# Altium integrated library Altera APEX 20KE.IntLib: 235 symbols (part 13 of 49)
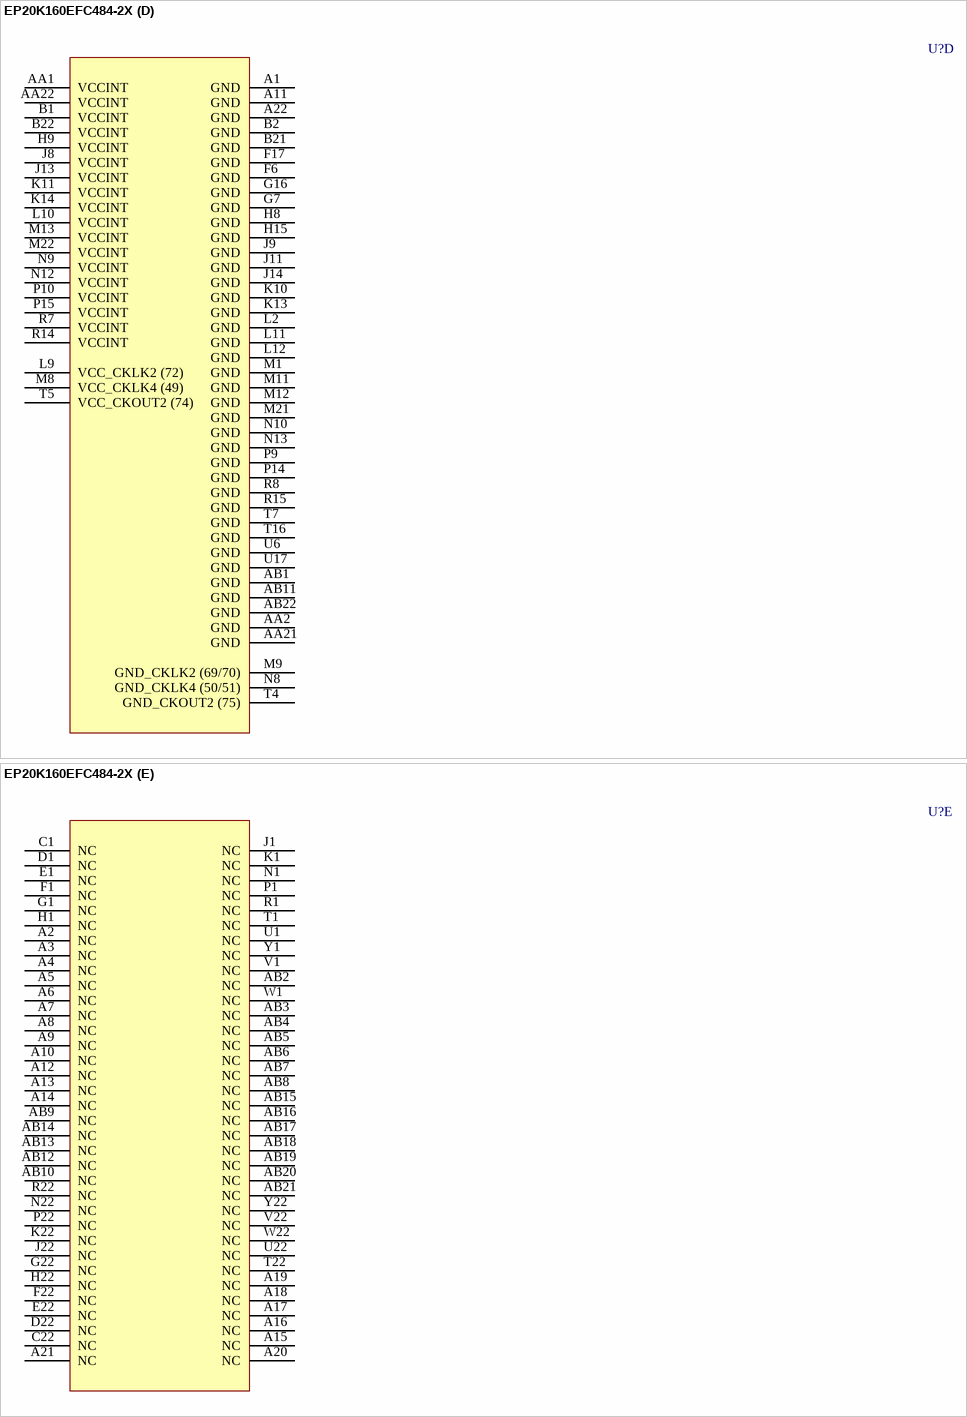
[diagram p411: symbol EP20K160EFC484-2X]

## EP20K160EFC484-2X
designator U?
APEX 20K160E PLD with PLLs and LVDS, 484-Pin FBGA, Commercial Grade, Speed Grade 2; Published: 17-Jul-2002; LatestRevisionDate: 13-Apr-2006; LatestRevisionNote: IPC-7351 Footprint Added.; DatasheetVersion: Mar-2004; PackageVersion: ver16.0, Dec-2009; PackageReference: FBGA484; Publisher: Altium Limited; PackageDescription: 484-Ball FineLine Ball Grid Array (FBGA484) - Flip Chip; Code_JEDEC: MS-034-AAJ-1; Code_IPC: BGA100P22X22-484; ComponentLink1Description: Manufacturer Link; ComponentLink1URL: http://www.altera.com/products/devices/apex/apx-index.html; ComponentLink2Description: Datasheet; ComponentLink2URL: http://www.altera.com/literature/ds/apex.pdf
footprint FBGA484 (BGA, 484-Leads, Body 23x23mm, Pitch 1mm)
3D model EP20K160E-FBGA484 (484-Ball FineLine Ball Grid Array (FBGA484) - Flip Chip)
part A pins: AA3 IO (121) (io), AA4 IO (122) (io), AA5 IO (123) (io), AA6 IO (124) (io), AA7 IO (125) (io), AA8 IO (127) (io), AA9 IO (128) (io), AA10 IO (129) (io), AA11 IO (130) (io), B12 IO (339) (io), B13 IO (338) (io), B14 IO (337) (io), B15 IO (336) (io), B16 IO (334) (io), B17 IO (333) (io), B18 IO (332) (io), B19 IO (331) (io), B20 IO (330) (io), C4 IO (419) (io), C5 IO (413) (io), C6 IO (409) (io), C7 IO (405) (io), C8 IO (400) (io), C9 IO (394) (io), C10 IO (393) (io), C20 IO (328) (io), C21 IO (326) (io), D4 IO/DATA5 (420) (io), D5 IO (418) (io), D6 IO (411) (io), D7 IO (406) (io), D8 IO/DATA3 (412) (io), D9 IO (401) (io), D10 IO (391) (io), D11 FAST2 (385) (io), D19 IO (327) (io), D20 IO (324) (io), D21 IO (321) (io), E7 IO/DATA4 (416) (io), E8 IO (414) (io), E9 IO (404) (io), E10 IO (402) (io), E18 IO (325) (io), E19 IO (322) (io), E20 IO (319) (io), E21 IO (315) (io), F8 IO (415) (io), F9 IO (408) (io), F10 IO (397) (io), F11 IO (388) (io), F12 FAST1 (378) (io), F18 IO (320) (io), F19 IO (318) (io), F20 IO (313) (io), F21 IO (311) (io), G8 VCCIO1 (power), G9 IO (417) (io), G10 IO/DATA2 (403) (io), G11 IO (395) (io), G12 IO/RDYnBSY (390) (io), G13 IO/INIT_DONE (389) (io), G18 IO (314) (io), G19 IO (312) (io), G20 IO (308) (io), G21 IO (306) (io), H10 IO (407) (io), H11 IO/DATA1 (396) (io), H12 IO/CLKUSR (392) (io), H17 IO (309) (io), H18 IO (307) (io), H19 IO (303) (io), H20 IO (301) (io), H21 IO (299) (io), J2 IO (83) (io), J3 IO (82) (io), J5 IO (45) (io), J7 IO (40) (io), J10 VCCIO1 (power), J15 VCCIO3 (power), J16 IO (305) (io), J17 IO (302) (io), J19 IO (296) (io), J20 IO (294) (io), J21 IO (289) (io), K2 IO (88) (io), K3 IO (86) (io), K5 IO (81) (io), K15 IO (297) (io), K16 IO (295) (io), K19 IO (291) (io), K20 IO (287) (io), K21 IO (284) (io), L13 VCCIO3 (power), L21 IO (282) (io), L22 VCCIO5 (power), M2 IO (92) (io), M3 IO (91) (io), M6 IO (97) (io), N2 IO (95) (io), N3 IO (94) (io), N6 IO/DEV_OE (73) (io), N11 VCCIO7 (power), N14 VCCIO5 (power), N20 IO (269) (io), N21 IO (270) (io), P2 IO (98) (io), P3 IO (99) (io), P12 IO (189) (io), P20 IO (260) (io), P21 IO (263) (io), R2 IO (100) (io), R3 IO (101) (io), R4 IO/LOCK2 (87) (io), R5 IO/CLKLK_OUT2n (80) (io), R9 VCCIO7 (power), R12 IO (184) (io), R13 IO (194) (io), R16 VCCIO5 (power), T2 IO (105) (io), T3 IO (104) (io), T8 VCCIO7 (power), T12 IO (181) (io), T13 IO (185) (io), T14 IO (196) (io), U2 IO (103) (io), U3 IO (107) (io), U4 IO (111) (io), U5 IO/LOCK4 (93) (io), U13 IO (187) (io), U14 IO (193) (io), U15 IO (203) (io), U16 IO (205) (io), U18 IO (208) (io), V2 IO (106) (io), V3 IO (110) (io), V4 IO (113) (io), V11 FAST4 (168) (io), V12 FAST3 (177) (io), V13 IO (183) (io), V14 IO (192) (io), V15 IO (199) (io), V16 IO (204) (io), V17 IO (207) (io), V18 IO (209) (io), W2 IO (109) (io), W3 IO (112) (io), W4 IO (116) (io), W5 IO (118) (io), W14 IO (191) (io), W15 IO (197) (io), W16 IO (200) (io), W17 IO (206) (io), W18 IO (212) (io), Y2 IO (115) (io), Y3 IO (117) (io), Y4 IO (119) (io), Y11 IO (180) (io), Y12 IO (182) (io), Y13 IO (186) (io), Y14 IO (188) (io), Y15 IO (195) (io), Y16 IO (198) (io), Y17 IO (211) (io), Y18 IO (210) (io)
part B pins: AA12 IO (215) (io), AA13 IO (216) (io), AA14 IO (217) (io), AA15 IO (218) (io), AA16 IO (220) (io), AA17 IO (221) (io), AA18 IO (222) (io), AA19 IO (223) (io), AA20 IO (224) (io), B3 IO (11) (io), B4 IO (10) (io), B5 IO (9) (io), B6 IO (8) (io), B7 IO (7) (io), B8 IO (4) (io), B9 IO (3) (io), B10 IO (2) (io), B11 IO (1) (io), C2 IO (13) (io), C3 IO (14) (io), C11 IO (370) (io), C12 IO (368) (io), C13 IO (366) (io), C14 IO (362) (io), C15 IO (355) (io), C16 IO (353) (io), C17 IO (348) (io), C18 IO (344) (io), C19 IO (342) (io), D2 IO (16) (io), D3 IO (15) (io), D13 IO (367) (io), D14 IO (360) (io), D15 IO (356) (io), D16 IO (354) (io), D17 IO (347) (io), D18 IO (343) (io), E2 IO (26) (io), E3 IO (23) (io), E4 IO (19) (io), E5 IO (17) (io), E6 IO (20) (io), E13 IO (373) (io), E14 IO (363) (io), E15 IO (358) (io), E16 IO (351) (io), E17 IO (346) (io), F2 IO (31) (io), F3 IO (27) (io), F4 IO (25) (io), F5 IO (21) (io), F7 IO (22) (io), F13 IO (369) (io), F14 IO (365) (io), F15 IO (359) (io), F16 IO (350) (io), G2 IO (46) (io), G3 IO (44) (io), G4 IO (37) (io), G5 IO (29) (io), G6 IO (34) (io), G14 IO (375) (io), G15 IO (361) (io), G17 IO (345) (io), H2 IO (77) (io), H3 IO (53) (io), H4 IO (43) (io), H5 IO (38) (io), H6 IO (32) (io), H7 VCCIO8 (power), H13 IO (374) (io), H14 VCCIO2 (power), H16 IO (349) (io), J4 IO (47) (io), J6 IO/DATA6 (28) (io), J12 IO (372) (io), J18 IO (300) (io), K4 IO (85) (io), K6 IO (76) (io), K7 IO/nCS (41) (io), K8 IO/DATA7 (33) (io), K9 VCCIO8 (power), K12 VCCIO2 (power), K17 CLK3p (272) (in), K18 IO/CLK3n (271) (io), L1 VCCIO8 (power), L3 IO (89) (io), L6 CLK2p (65) (in), L7 IO/CLK2n (61) (io), L8 IO/nRS (39) (io), L14 IO (293) (io), L15 IO (290) (io), L16 IO (288) (io), L17 IO (285) (io), L20 IO (283) (io), M7 IO/nWS (35) (io), M10 VCCIO6 (power), M15 IO (265) (io), M16 IO (267) (io), M17 IO/CLK1n (273) (io), M18 CLK1p (277) (in), M20 IO (281) (io), N4 CLK4p (60) (in), N5 IO/CLK4n (59) (io), N7 IO/DEV_CLRn (54) (io), N15 IO (257) (io), N16 IO (259) (io), N17 IO (261) (io), N18 IO (264) (io), N19 IO (266) (io), P4 IO/CS (52) (io), P6 IO/CLKLK_FB2n (57) (io), P7 IO (137) (io), P8 VCCIO6 (power), P11 IO (157) (io), P13 VCCIO4 (power), P16 IO (251) (io), P17 IO (253) (io), P18 IO (255) (io), P19 IO (258) (io), R10 IO (163) (io), R11 IO (162) (io), R17 IO (242) (io), R18 IO (245) (io), R19 IO (247) (io), R20 IO (252) (io), R21 IO (254) (io), T6 IO (136) (io), T9 IO (149) (io), T10 IO (155) (io), T11 IO (164) (io), T15 VCCIO4 (power), T17 IO (236) (io), T18 IO (239) (io), T19 IO (241) (io), T20 IO (246) (io), T21 IO (248) (io), U7 IO (142) (io), U8 IO (145) (io), U9 IO (153) (io), U10 IO (156) (io), U11 IO (160) (io), U12 IO (159) (io), U19 IO (233) (io), U20 IO (240) (io), U21 IO (244) (io), V5 IO (134) (io), V6 IO (140) (io), V7 IO (141) (io), V8 IO (146) (io), V9 IO (152) (io), V10 IO (158) (io), V19 IO (230) (io), V20 IO (234) (io), V21 IO (238) (io), W6 IO (139) (io), W7 IO (138) (io), W8 IO (147) (io), W9 IO (151) (io), W19 IO (228) (io), W20 IO (232) (io), W21 IO (235) (io), Y5 IO (133) (io), Y6 IO (135) (io), Y7 IO (144) (io), Y8 IO (150) (io), Y9 IO (148) (io), Y10 IO (165) (io), Y19 IO (226) (io), Y20 IO (227) (io), Y21 IO (229) (io)
part C pins: D12 TRST (376) (in), E11 TDO (386) (out), E12 nCEO (377) (out), L4 DATA0 (63) (in), L5 DCLK (64) (in), L18 MSEL1 (278) (in), L19 MSEL0 (279) (in), M4 nCE (66) (in), M5 TDI (67) (in), M14 CLKLK_ENA (276) (in), M19 nCONFIG (275) (in), P5 CLKLK_OUT2p (79) (out), R6 CLKLK_FB2p (58) (in), W10 CONF_DONE (166) (io), W11 nSTATUS (167) (io), W12 TCK (178) (in), W13 TMS (179) (in)
part D pins: A1 GND (power), A11 GND (power), A22 GND (power), AA1 VCCINT (power), AA2 GND (power), AA21 GND (power), AA22 VCCINT (power), AB1 GND (power), AB11 GND (power), AB22 GND (power), B1 VCCINT (power), B2 GND (power), B21 GND (power), B22 VCCINT (power), F6 GND (power), F17 GND (power), G7 GND (power), G16 GND (power), H8 GND (power), H9 VCCINT (power), H15 GND (power), J8 VCCINT (power), J9 GND (power), J11 GND (power), J13 VCCINT (power), J14 GND (power), K10 GND (power), K11 VCCINT (power), K13 GND (power), K14 VCCINT (power), L2 GND (power), L9 VCC_CKLK2 (72) (power), L10 VCCINT (power), L11 GND (power), L12 GND (power), M1 GND (power), M8 VCC_CKLK4 (49) (power), M9 GND_CKLK2 (69/70) (power), M11 GND (power), M12 GND (power), M13 VCCINT (power), M21 GND (power), M22 VCCINT (power), N8 GND_CKLK4 (50/51) (power), N9 VCCINT (power), N10 GND (power), N12 VCCINT (power), N13 GND (power), P9 GND (power), P10 VCCINT (power), P14 GND (power), P15 VCCINT (power), R7 VCCINT (power), R8 GND (power), R14 VCCINT (power), R15 GND (power), T4 GND_CKOUT2 (75) (power), T5 VCC_CKOUT2 (74) (power), T7 GND (power), T16 GND (power), U6 GND (power), U17 GND (power)
part E pins: A2 NC, A3 NC, A4 NC, A5 NC, A6 NC, A7 NC, A8 NC, A9 NC, A10 NC, A12 NC, A13 NC, A14 NC, A15 NC, A16 NC, A17 NC, A18 NC, A19 NC, A20 NC, A21 NC, AB2 NC, AB3 NC, AB4 NC, AB5 NC, AB6 NC, AB7 NC, AB8 NC, AB9 NC, AB10 NC, AB12 NC, AB13 NC, AB14 NC, AB15 NC, AB16 NC, AB17 NC, AB18 NC, AB19 NC, AB20 NC, AB21 NC, C1 NC, C22 NC, D1 NC, D22 NC, E1 NC, E22 NC, F1 NC, F22 NC, G1 NC, G22 NC, H1 NC, H22 NC, J1 NC, J22 NC, K1 NC, K22 NC, N1 NC, N22 NC, P1 NC, P22 NC, R1 NC, R22 NC, T1 NC, T22 NC, U1 NC, U22 NC, V1 NC, V22 NC, W1 NC, W22 NC, Y1 NC, Y22 NC

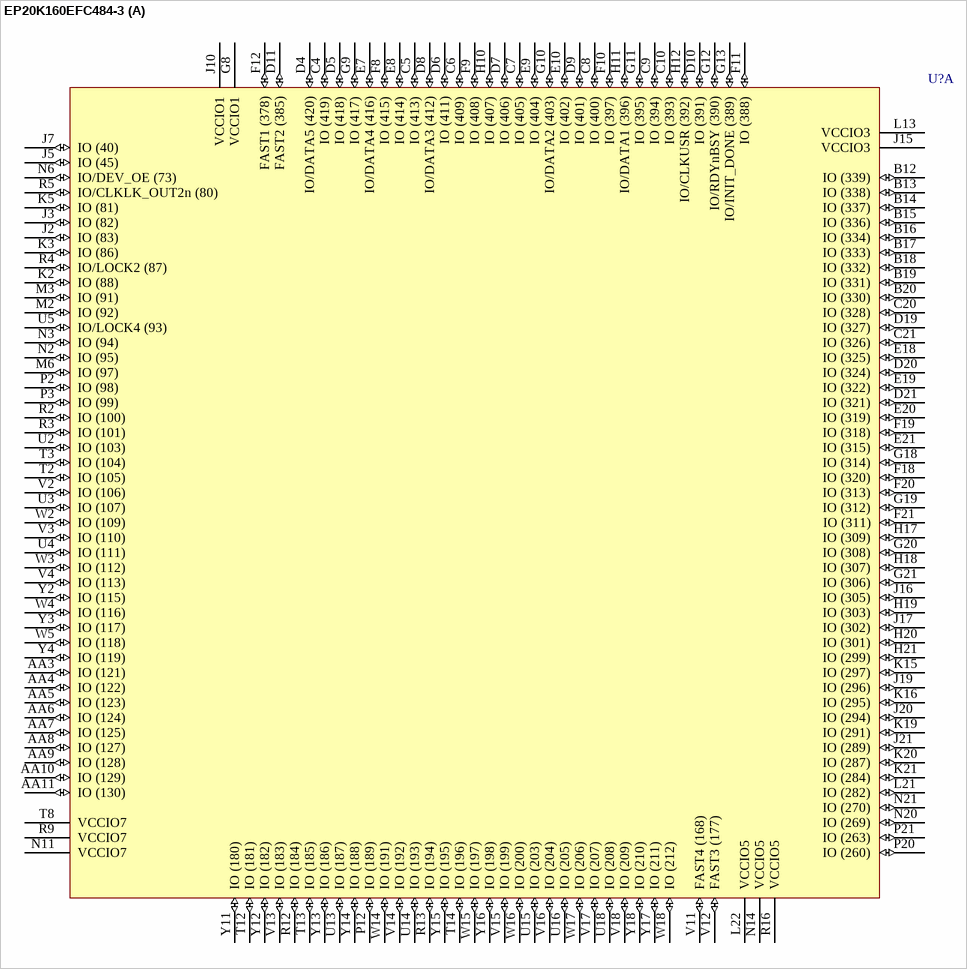
[diagram p138: symbol EP20K160EFC484-3]

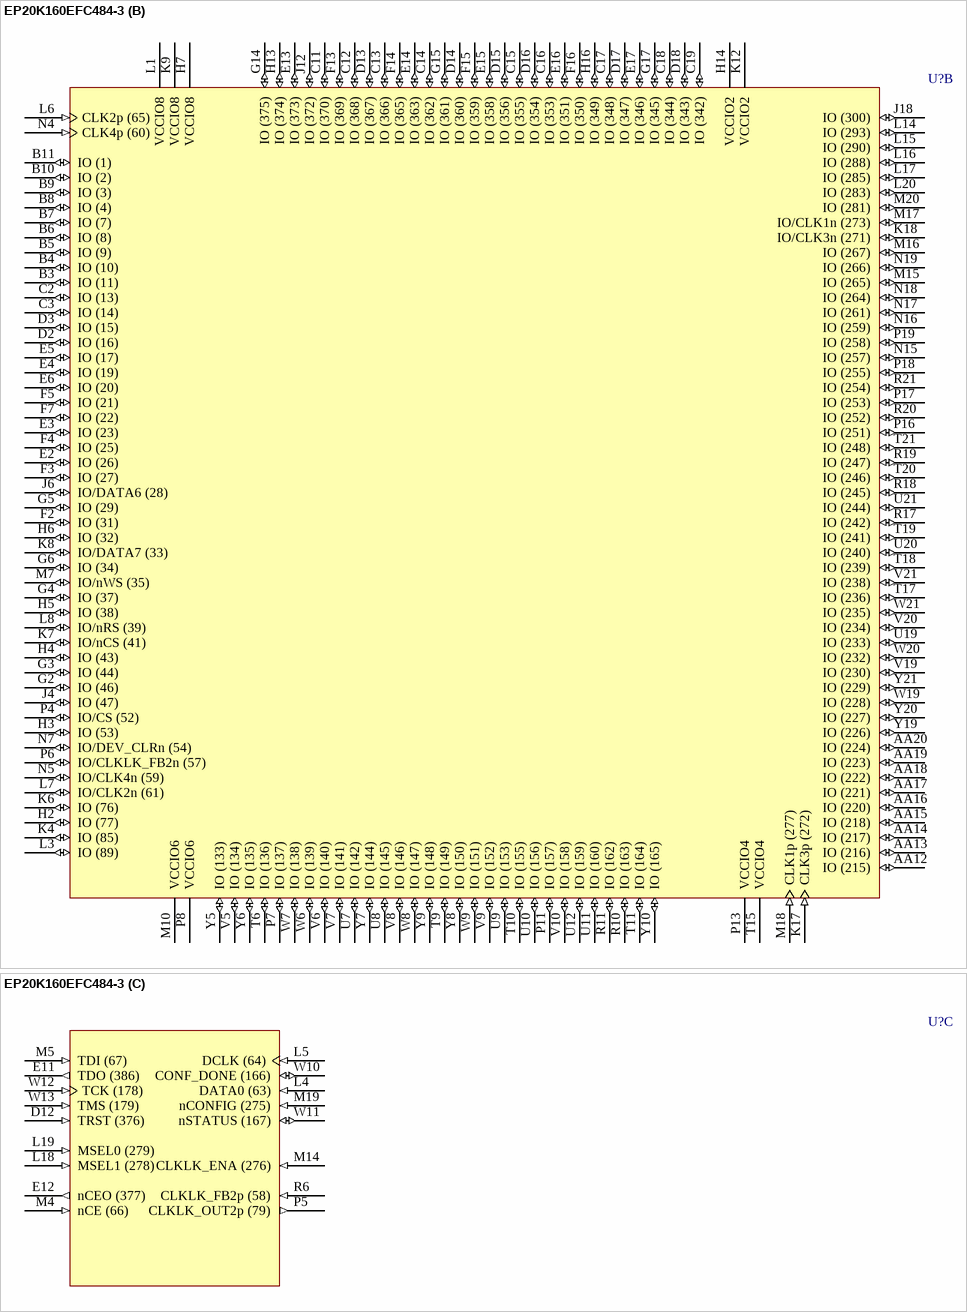
[diagram p139: symbol EP20K160EFC484-3]

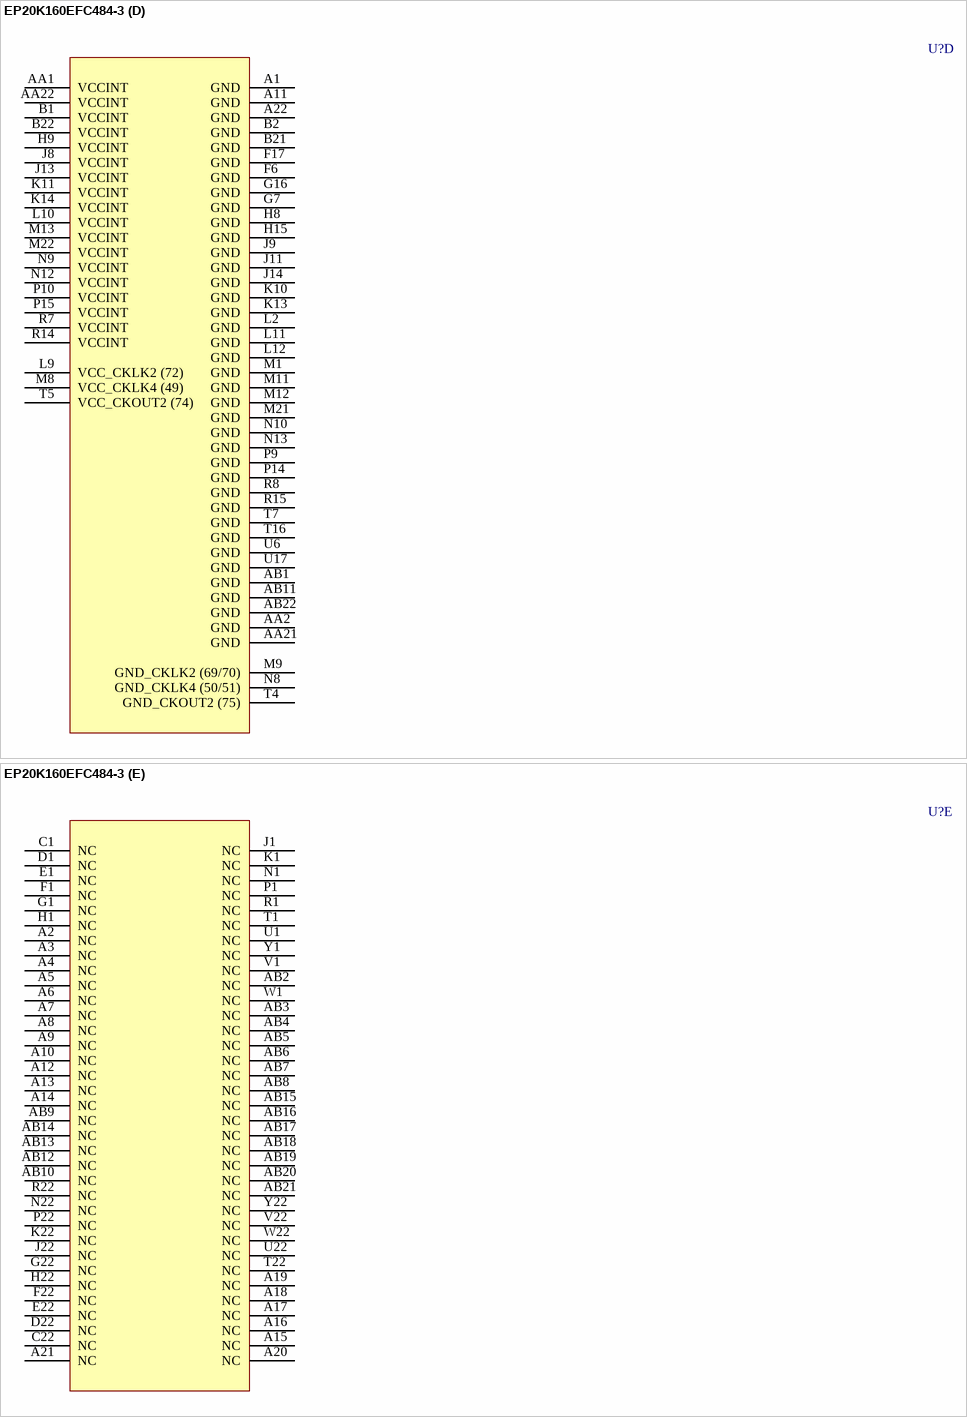
[diagram p140: symbol EP20K160EFC484-3]

## EP20K160EFC484-3
designator U?
APEX 20K160E PLD, 484-Pin FBGA, Commercial Grade, Speed Grade 3; Published: 17-Jul-2002; LatestRevisionDate: 13-Apr-2006; LatestRevisionNote: IPC-7351 Footprint Added.; DatasheetVersion: Mar-2004; PackageVersion: ver16.0, Dec-2009; PackageReference: FBGA484; Publisher: Altium Limited; PackageDescription: 484-Ball FineLine Ball Grid Array (FBGA484) - Flip Chip; Code_JEDEC: MS-034-AAJ-1; Code_IPC: BGA100P22X22-484; ComponentLink1Description: Manufacturer Link; ComponentLink1URL: http://www.altera.com/products/devices/apex/apx-index.html; ComponentLink2Description: Datasheet; ComponentLink2URL: http://www.altera.com/literature/ds/apex.pdf
footprint FBGA484 (BGA, 484-Leads, Body 23x23mm, Pitch 1mm)
3D model EP20K160E-FBGA484 (484-Ball FineLine Ball Grid Array (FBGA484) - Flip Chip)
part A pins: AA3 IO (121) (io), AA4 IO (122) (io), AA5 IO (123) (io), AA6 IO (124) (io), AA7 IO (125) (io), AA8 IO (127) (io), AA9 IO (128) (io), AA10 IO (129) (io), AA11 IO (130) (io), B12 IO (339) (io), B13 IO (338) (io), B14 IO (337) (io), B15 IO (336) (io), B16 IO (334) (io), B17 IO (333) (io), B18 IO (332) (io), B19 IO (331) (io), B20 IO (330) (io), C4 IO (419) (io), C5 IO (413) (io), C6 IO (409) (io), C7 IO (405) (io), C8 IO (400) (io), C9 IO (394) (io), C10 IO (393) (io), C20 IO (328) (io), C21 IO (326) (io), D4 IO/DATA5 (420) (io), D5 IO (418) (io), D6 IO (411) (io), D7 IO (406) (io), D8 IO/DATA3 (412) (io), D9 IO (401) (io), D10 IO (391) (io), D11 FAST2 (385) (io), D19 IO (327) (io), D20 IO (324) (io), D21 IO (321) (io), E7 IO/DATA4 (416) (io), E8 IO (414) (io), E9 IO (404) (io), E10 IO (402) (io), E18 IO (325) (io), E19 IO (322) (io), E20 IO (319) (io), E21 IO (315) (io), F8 IO (415) (io), F9 IO (408) (io), F10 IO (397) (io), F11 IO (388) (io), F12 FAST1 (378) (io), F18 IO (320) (io), F19 IO (318) (io), F20 IO (313) (io), F21 IO (311) (io), G8 VCCIO1 (power), G9 IO (417) (io), G10 IO/DATA2 (403) (io), G11 IO (395) (io), G12 IO/RDYnBSY (390) (io), G13 IO/INIT_DONE (389) (io), G18 IO (314) (io), G19 IO (312) (io), G20 IO (308) (io), G21 IO (306) (io), H10 IO (407) (io), H11 IO/DATA1 (396) (io), H12 IO/CLKUSR (392) (io), H17 IO (309) (io), H18 IO (307) (io), H19 IO (303) (io), H20 IO (301) (io), H21 IO (299) (io), J2 IO (83) (io), J3 IO (82) (io), J5 IO (45) (io), J7 IO (40) (io), J10 VCCIO1 (power), J15 VCCIO3 (power), J16 IO (305) (io), J17 IO (302) (io), J19 IO (296) (io), J20 IO (294) (io), J21 IO (289) (io), K2 IO (88) (io), K3 IO (86) (io), K5 IO (81) (io), K15 IO (297) (io), K16 IO (295) (io), K19 IO (291) (io), K20 IO (287) (io), K21 IO (284) (io), L13 VCCIO3 (power), L21 IO (282) (io), L22 VCCIO5 (power), M2 IO (92) (io), M3 IO (91) (io), M6 IO (97) (io), N2 IO (95) (io), N3 IO (94) (io), N6 IO/DEV_OE (73) (io), N11 VCCIO7 (power), N14 VCCIO5 (power), N20 IO (269) (io), N21 IO (270) (io), P2 IO (98) (io), P3 IO (99) (io), P12 IO (189) (io), P20 IO (260) (io), P21 IO (263) (io), R2 IO (100) (io), R3 IO (101) (io), R4 IO/LOCK2 (87) (io), R5 IO/CLKLK_OUT2n (80) (io), R9 VCCIO7 (power), R12 IO (184) (io), R13 IO (194) (io), R16 VCCIO5 (power), T2 IO (105) (io), T3 IO (104) (io), T8 VCCIO7 (power), T12 IO (181) (io), T13 IO (185) (io), T14 IO (196) (io), U2 IO (103) (io), U3 IO (107) (io), U4 IO (111) (io), U5 IO/LOCK4 (93) (io), U13 IO (187) (io), U14 IO (193) (io), U15 IO (203) (io), U16 IO (205) (io), U18 IO (208) (io), V2 IO (106) (io), V3 IO (110) (io), V4 IO (113) (io), V11 FAST4 (168) (io), V12 FAST3 (177) (io), V13 IO (183) (io), V14 IO (192) (io), V15 IO (199) (io), V16 IO (204) (io), V17 IO (207) (io), V18 IO (209) (io), W2 IO (109) (io), W3 IO (112) (io), W4 IO (116) (io), W5 IO (118) (io), W14 IO (191) (io), W15 IO (197) (io), W16 IO (200) (io), W17 IO (206) (io), W18 IO (212) (io), Y2 IO (115) (io), Y3 IO (117) (io), Y4 IO (119) (io), Y11 IO (180) (io), Y12 IO (182) (io), Y13 IO (186) (io), Y14 IO (188) (io), Y15 IO (195) (io), Y16 IO (198) (io), Y17 IO (211) (io), Y18 IO (210) (io)
part B pins: AA12 IO (215) (io), AA13 IO (216) (io), AA14 IO (217) (io), AA15 IO (218) (io), AA16 IO (220) (io), AA17 IO (221) (io), AA18 IO (222) (io), AA19 IO (223) (io), AA20 IO (224) (io), B3 IO (11) (io), B4 IO (10) (io), B5 IO (9) (io), B6 IO (8) (io), B7 IO (7) (io), B8 IO (4) (io), B9 IO (3) (io), B10 IO (2) (io), B11 IO (1) (io), C2 IO (13) (io), C3 IO (14) (io), C11 IO (370) (io), C12 IO (368) (io), C13 IO (366) (io), C14 IO (362) (io), C15 IO (355) (io), C16 IO (353) (io), C17 IO (348) (io), C18 IO (344) (io), C19 IO (342) (io), D2 IO (16) (io), D3 IO (15) (io), D13 IO (367) (io), D14 IO (360) (io), D15 IO (356) (io), D16 IO (354) (io), D17 IO (347) (io), D18 IO (343) (io), E2 IO (26) (io), E3 IO (23) (io), E4 IO (19) (io), E5 IO (17) (io), E6 IO (20) (io), E13 IO (373) (io), E14 IO (363) (io), E15 IO (358) (io), E16 IO (351) (io), E17 IO (346) (io), F2 IO (31) (io), F3 IO (27) (io), F4 IO (25) (io), F5 IO (21) (io), F7 IO (22) (io), F13 IO (369) (io), F14 IO (365) (io), F15 IO (359) (io), F16 IO (350) (io), G2 IO (46) (io), G3 IO (44) (io), G4 IO (37) (io), G5 IO (29) (io), G6 IO (34) (io), G14 IO (375) (io), G15 IO (361) (io), G17 IO (345) (io), H2 IO (77) (io), H3 IO (53) (io), H4 IO (43) (io), H5 IO (38) (io), H6 IO (32) (io), H7 VCCIO8 (power), H13 IO (374) (io), H14 VCCIO2 (power), H16 IO (349) (io), J4 IO (47) (io), J6 IO/DATA6 (28) (io), J12 IO (372) (io), J18 IO (300) (io), K4 IO (85) (io), K6 IO (76) (io), K7 IO/nCS (41) (io), K8 IO/DATA7 (33) (io), K9 VCCIO8 (power), K12 VCCIO2 (power), K17 CLK3p (272) (in), K18 IO/CLK3n (271) (io), L1 VCCIO8 (power), L3 IO (89) (io), L6 CLK2p (65) (in), L7 IO/CLK2n (61) (io), L8 IO/nRS (39) (io), L14 IO (293) (io), L15 IO (290) (io), L16 IO (288) (io), L17 IO (285) (io), L20 IO (283) (io), M7 IO/nWS (35) (io), M10 VCCIO6 (power), M15 IO (265) (io), M16 IO (267) (io), M17 IO/CLK1n (273) (io), M18 CLK1p (277) (in), M20 IO (281) (io), N4 CLK4p (60) (in), N5 IO/CLK4n (59) (io), N7 IO/DEV_CLRn (54) (io), N15 IO (257) (io), N16 IO (259) (io), N17 IO (261) (io), N18 IO (264) (io), N19 IO (266) (io), P4 IO/CS (52) (io), P6 IO/CLKLK_FB2n (57) (io), P7 IO (137) (io), P8 VCCIO6 (power), P11 IO (157) (io), P13 VCCIO4 (power), P16 IO (251) (io), P17 IO (253) (io), P18 IO (255) (io), P19 IO (258) (io), R10 IO (163) (io), R11 IO (162) (io), R17 IO (242) (io), R18 IO (245) (io), R19 IO (247) (io), R20 IO (252) (io), R21 IO (254) (io), T6 IO (136) (io), T9 IO (149) (io), T10 IO (155) (io), T11 IO (164) (io), T15 VCCIO4 (power), T17 IO (236) (io), T18 IO (239) (io), T19 IO (241) (io), T20 IO (246) (io), T21 IO (248) (io), U7 IO (142) (io), U8 IO (145) (io), U9 IO (153) (io), U10 IO (156) (io), U11 IO (160) (io), U12 IO (159) (io), U19 IO (233) (io), U20 IO (240) (io), U21 IO (244) (io), V5 IO (134) (io), V6 IO (140) (io), V7 IO (141) (io), V8 IO (146) (io), V9 IO (152) (io), V10 IO (158) (io), V19 IO (230) (io), V20 IO (234) (io), V21 IO (238) (io), W6 IO (139) (io), W7 IO (138) (io), W8 IO (147) (io), W9 IO (151) (io), W19 IO (228) (io), W20 IO (232) (io), W21 IO (235) (io), Y5 IO (133) (io), Y6 IO (135) (io), Y7 IO (144) (io), Y8 IO (150) (io), Y9 IO (148) (io), Y10 IO (165) (io), Y19 IO (226) (io), Y20 IO (227) (io), Y21 IO (229) (io)
part C pins: D12 TRST (376) (in), E11 TDO (386) (out), E12 nCEO (377) (out), L4 DATA0 (63) (in), L5 DCLK (64) (in), L18 MSEL1 (278) (in), L19 MSEL0 (279) (in), M4 nCE (66) (in), M5 TDI (67) (in), M14 CLKLK_ENA (276) (in), M19 nCONFIG (275) (in), P5 CLKLK_OUT2p (79) (out), R6 CLKLK_FB2p (58) (in), W10 CONF_DONE (166) (io), W11 nSTATUS (167) (io), W12 TCK (178) (in), W13 TMS (179) (in)
part D pins: A1 GND (power), A11 GND (power), A22 GND (power), AA1 VCCINT (power), AA2 GND (power), AA21 GND (power), AA22 VCCINT (power), AB1 GND (power), AB11 GND (power), AB22 GND (power), B1 VCCINT (power), B2 GND (power), B21 GND (power), B22 VCCINT (power), F6 GND (power), F17 GND (power), G7 GND (power), G16 GND (power), H8 GND (power), H9 VCCINT (power), H15 GND (power), J8 VCCINT (power), J9 GND (power), J11 GND (power), J13 VCCINT (power), J14 GND (power), K10 GND (power), K11 VCCINT (power), K13 GND (power), K14 VCCINT (power), L2 GND (power), L9 VCC_CKLK2 (72) (power), L10 VCCINT (power), L11 GND (power), L12 GND (power), M1 GND (power), M8 VCC_CKLK4 (49) (power), M9 GND_CKLK2 (69/70) (power), M11 GND (power), M12 GND (power), M13 VCCINT (power), M21 GND (power), M22 VCCINT (power), N8 GND_CKLK4 (50/51) (power), N9 VCCINT (power), N10 GND (power), N12 VCCINT (power), N13 GND (power), P9 GND (power), P10 VCCINT (power), P14 GND (power), P15 VCCINT (power), R7 VCCINT (power), R8 GND (power), R14 VCCINT (power), R15 GND (power), T4 GND_CKOUT2 (75) (power), T5 VCC_CKOUT2 (74) (power), T7 GND (power), T16 GND (power), U6 GND (power), U17 GND (power)
part E pins: A2 NC, A3 NC, A4 NC, A5 NC, A6 NC, A7 NC, A8 NC, A9 NC, A10 NC, A12 NC, A13 NC, A14 NC, A15 NC, A16 NC, A17 NC, A18 NC, A19 NC, A20 NC, A21 NC, AB2 NC, AB3 NC, AB4 NC, AB5 NC, AB6 NC, AB7 NC, AB8 NC, AB9 NC, AB10 NC, AB12 NC, AB13 NC, AB14 NC, AB15 NC, AB16 NC, AB17 NC, AB18 NC, AB19 NC, AB20 NC, AB21 NC, C1 NC, C22 NC, D1 NC, D22 NC, E1 NC, E22 NC, F1 NC, F22 NC, G1 NC, G22 NC, H1 NC, H22 NC, J1 NC, J22 NC, K1 NC, K22 NC, N1 NC, N22 NC, P1 NC, P22 NC, R1 NC, R22 NC, T1 NC, T22 NC, U1 NC, U22 NC, V1 NC, V22 NC, W1 NC, W22 NC, Y1 NC, Y22 NC

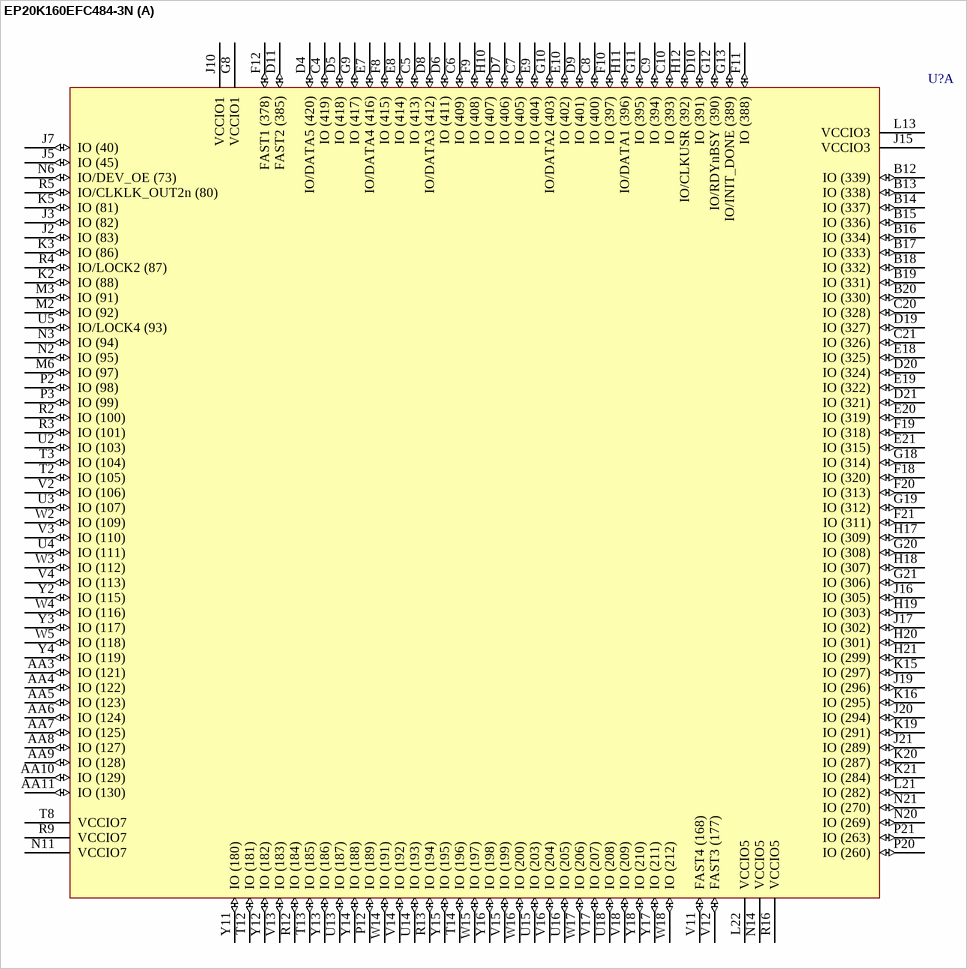
[diagram p141: symbol EP20K160EFC484-3N]

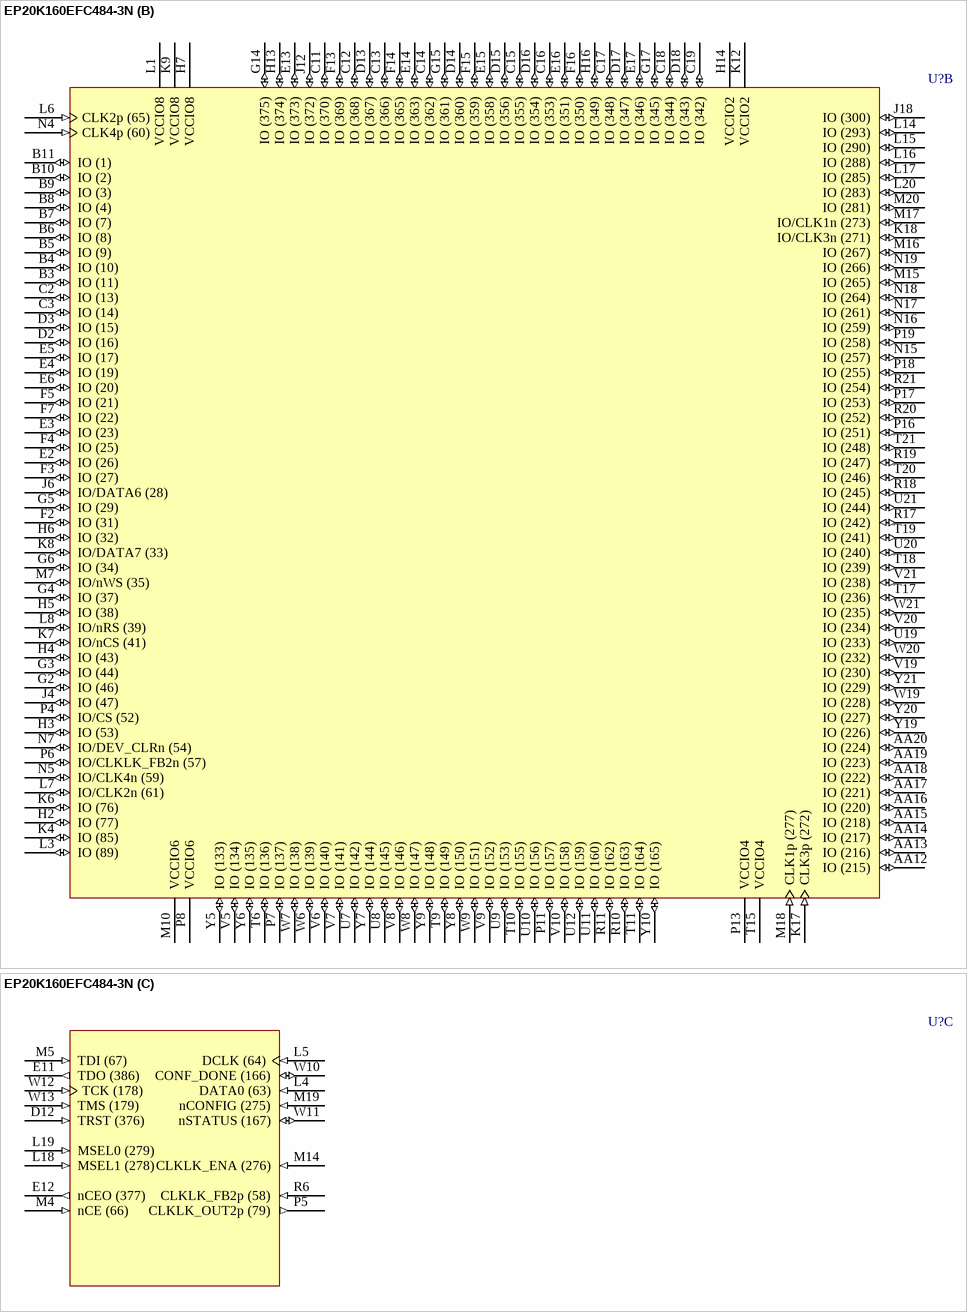
[diagram p142: symbol EP20K160EFC484-3N]

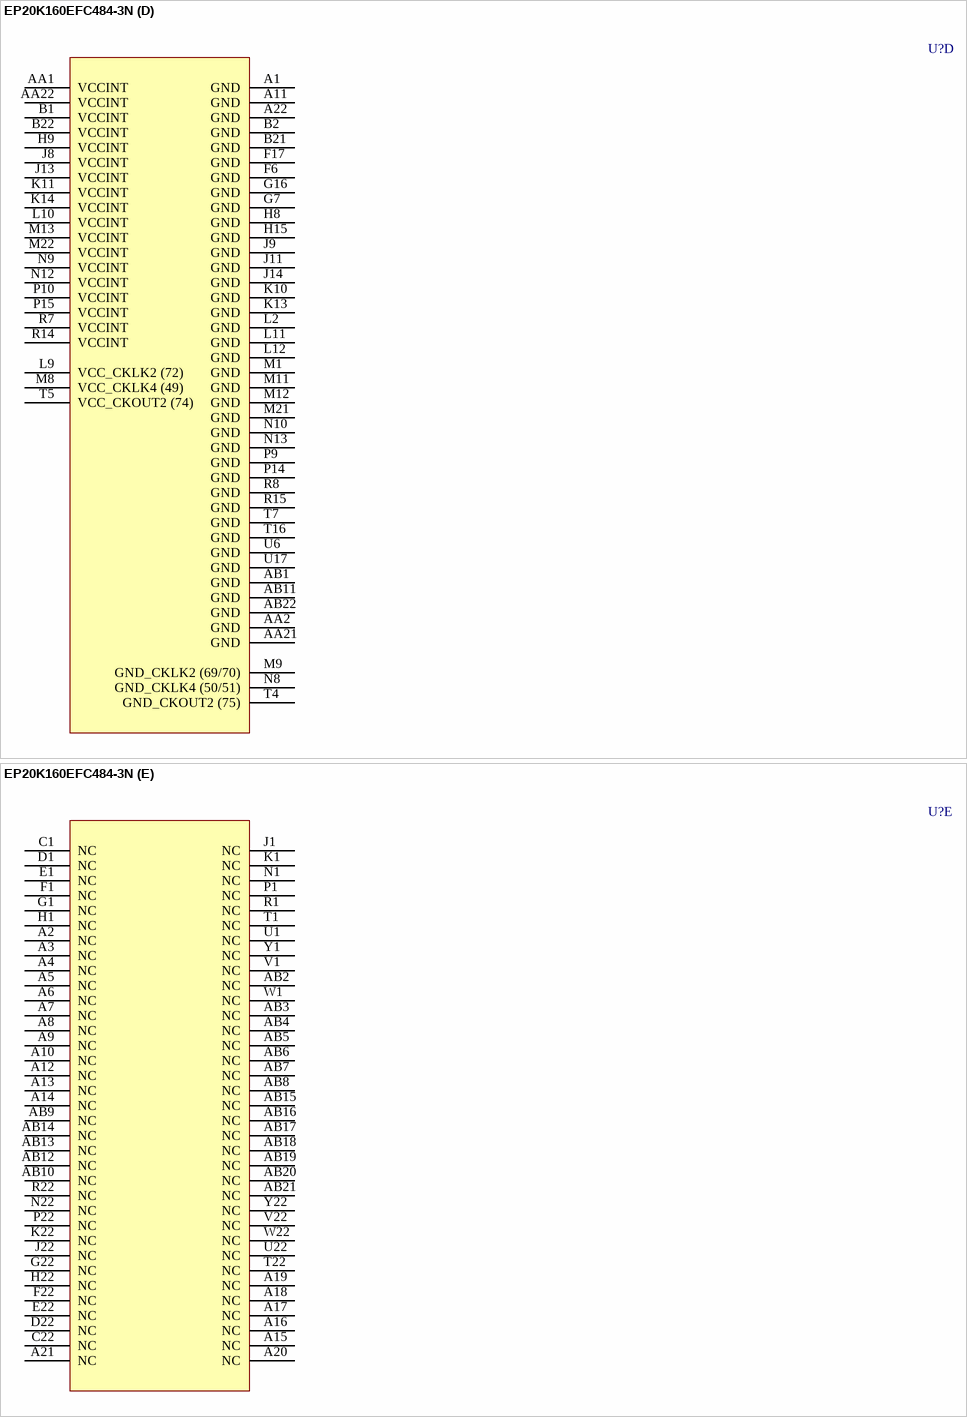
[diagram p143: symbol EP20K160EFC484-3N]

## EP20K160EFC484-3N
designator U?
APEX 20K160E PLD, 484-Pin FBGA, Pb-Free, Commercial Grade, Speed Grade 3; Published: 4-Mar-2005; LatestRevisionDate: 13-Apr-2006; LatestRevisionNote: IPC-7351 Footprint Added.; DatasheetVersion: Mar-2004; PackageVersion: ver16.0, Dec-2009; PackageReference: FBGA484; Publisher: Altium Limited; PackageDescription: 484-Ball FineLine Ball Grid Array (FBGA484) - Flip Chip; Code_JEDEC: MS-034-AAJ-1; Code_IPC: BGA100P22X22-484; ComponentLink1Description: Manufacturer Link; ComponentLink1URL: http://www.altera.com/products/devices/apex/apx-index.html; ComponentLink2Description: Datasheet; ComponentLink2URL: http://www.altera.com/literature/ds/apex.pdf
footprint FBGA484 (BGA, 484-Leads, Body 23x23mm, Pitch 1mm)
3D model EP20K160E-FBGA484 (484-Ball FineLine Ball Grid Array (FBGA484) - Flip Chip)
part A pins: AA3 IO (121) (io), AA4 IO (122) (io), AA5 IO (123) (io), AA6 IO (124) (io), AA7 IO (125) (io), AA8 IO (127) (io), AA9 IO (128) (io), AA10 IO (129) (io), AA11 IO (130) (io), B12 IO (339) (io), B13 IO (338) (io), B14 IO (337) (io), B15 IO (336) (io), B16 IO (334) (io), B17 IO (333) (io), B18 IO (332) (io), B19 IO (331) (io), B20 IO (330) (io), C4 IO (419) (io), C5 IO (413) (io), C6 IO (409) (io), C7 IO (405) (io), C8 IO (400) (io), C9 IO (394) (io), C10 IO (393) (io), C20 IO (328) (io), C21 IO (326) (io), D4 IO/DATA5 (420) (io), D5 IO (418) (io), D6 IO (411) (io), D7 IO (406) (io), D8 IO/DATA3 (412) (io), D9 IO (401) (io), D10 IO (391) (io), D11 FAST2 (385) (io), D19 IO (327) (io), D20 IO (324) (io), D21 IO (321) (io), E7 IO/DATA4 (416) (io), E8 IO (414) (io), E9 IO (404) (io), E10 IO (402) (io), E18 IO (325) (io), E19 IO (322) (io), E20 IO (319) (io), E21 IO (315) (io), F8 IO (415) (io), F9 IO (408) (io), F10 IO (397) (io), F11 IO (388) (io), F12 FAST1 (378) (io), F18 IO (320) (io), F19 IO (318) (io), F20 IO (313) (io), F21 IO (311) (io), G8 VCCIO1 (power), G9 IO (417) (io), G10 IO/DATA2 (403) (io), G11 IO (395) (io), G12 IO/RDYnBSY (390) (io), G13 IO/INIT_DONE (389) (io), G18 IO (314) (io), G19 IO (312) (io), G20 IO (308) (io), G21 IO (306) (io), H10 IO (407) (io), H11 IO/DATA1 (396) (io), H12 IO/CLKUSR (392) (io), H17 IO (309) (io), H18 IO (307) (io), H19 IO (303) (io), H20 IO (301) (io), H21 IO (299) (io), J2 IO (83) (io), J3 IO (82) (io), J5 IO (45) (io), J7 IO (40) (io), J10 VCCIO1 (power), J15 VCCIO3 (power), J16 IO (305) (io), J17 IO (302) (io), J19 IO (296) (io), J20 IO (294) (io), J21 IO (289) (io), K2 IO (88) (io), K3 IO (86) (io), K5 IO (81) (io), K15 IO (297) (io), K16 IO (295) (io), K19 IO (291) (io), K20 IO (287) (io), K21 IO (284) (io), L13 VCCIO3 (power), L21 IO (282) (io), L22 VCCIO5 (power), M2 IO (92) (io), M3 IO (91) (io), M6 IO (97) (io), N2 IO (95) (io), N3 IO (94) (io), N6 IO/DEV_OE (73) (io), N11 VCCIO7 (power), N14 VCCIO5 (power), N20 IO (269) (io), N21 IO (270) (io), P2 IO (98) (io), P3 IO (99) (io), P12 IO (189) (io), P20 IO (260) (io), P21 IO (263) (io), R2 IO (100) (io), R3 IO (101) (io), R4 IO/LOCK2 (87) (io), R5 IO/CLKLK_OUT2n (80) (io), R9 VCCIO7 (power), R12 IO (184) (io), R13 IO (194) (io), R16 VCCIO5 (power), T2 IO (105) (io), T3 IO (104) (io), T8 VCCIO7 (power), T12 IO (181) (io), T13 IO (185) (io), T14 IO (196) (io), U2 IO (103) (io), U3 IO (107) (io), U4 IO (111) (io), U5 IO/LOCK4 (93) (io), U13 IO (187) (io), U14 IO (193) (io), U15 IO (203) (io), U16 IO (205) (io), U18 IO (208) (io), V2 IO (106) (io), V3 IO (110) (io), V4 IO (113) (io), V11 FAST4 (168) (io), V12 FAST3 (177) (io), V13 IO (183) (io), V14 IO (192) (io), V15 IO (199) (io), V16 IO (204) (io), V17 IO (207) (io), V18 IO (209) (io), W2 IO (109) (io), W3 IO (112) (io), W4 IO (116) (io), W5 IO (118) (io), W14 IO (191) (io), W15 IO (197) (io), W16 IO (200) (io), W17 IO (206) (io), W18 IO (212) (io), Y2 IO (115) (io), Y3 IO (117) (io), Y4 IO (119) (io), Y11 IO (180) (io), Y12 IO (182) (io), Y13 IO (186) (io), Y14 IO (188) (io), Y15 IO (195) (io), Y16 IO (198) (io), Y17 IO (211) (io), Y18 IO (210) (io)
part B pins: AA12 IO (215) (io), AA13 IO (216) (io), AA14 IO (217) (io), AA15 IO (218) (io), AA16 IO (220) (io), AA17 IO (221) (io), AA18 IO (222) (io), AA19 IO (223) (io), AA20 IO (224) (io), B3 IO (11) (io), B4 IO (10) (io), B5 IO (9) (io), B6 IO (8) (io), B7 IO (7) (io), B8 IO (4) (io), B9 IO (3) (io), B10 IO (2) (io), B11 IO (1) (io), C2 IO (13) (io), C3 IO (14) (io), C11 IO (370) (io), C12 IO (368) (io), C13 IO (366) (io), C14 IO (362) (io), C15 IO (355) (io), C16 IO (353) (io), C17 IO (348) (io), C18 IO (344) (io), C19 IO (342) (io), D2 IO (16) (io), D3 IO (15) (io), D13 IO (367) (io), D14 IO (360) (io), D15 IO (356) (io), D16 IO (354) (io), D17 IO (347) (io), D18 IO (343) (io), E2 IO (26) (io), E3 IO (23) (io), E4 IO (19) (io), E5 IO (17) (io), E6 IO (20) (io), E13 IO (373) (io), E14 IO (363) (io), E15 IO (358) (io), E16 IO (351) (io), E17 IO (346) (io), F2 IO (31) (io), F3 IO (27) (io), F4 IO (25) (io), F5 IO (21) (io), F7 IO (22) (io), F13 IO (369) (io), F14 IO (365) (io), F15 IO (359) (io), F16 IO (350) (io), G2 IO (46) (io), G3 IO (44) (io), G4 IO (37) (io), G5 IO (29) (io), G6 IO (34) (io), G14 IO (375) (io), G15 IO (361) (io), G17 IO (345) (io), H2 IO (77) (io), H3 IO (53) (io), H4 IO (43) (io), H5 IO (38) (io), H6 IO (32) (io), H7 VCCIO8 (power), H13 IO (374) (io), H14 VCCIO2 (power), H16 IO (349) (io), J4 IO (47) (io), J6 IO/DATA6 (28) (io), J12 IO (372) (io), J18 IO (300) (io), K4 IO (85) (io), K6 IO (76) (io), K7 IO/nCS (41) (io), K8 IO/DATA7 (33) (io), K9 VCCIO8 (power), K12 VCCIO2 (power), K17 CLK3p (272) (in), K18 IO/CLK3n (271) (io), L1 VCCIO8 (power), L3 IO (89) (io), L6 CLK2p (65) (in), L7 IO/CLK2n (61) (io), L8 IO/nRS (39) (io), L14 IO (293) (io), L15 IO (290) (io), L16 IO (288) (io), L17 IO (285) (io), L20 IO (283) (io), M7 IO/nWS (35) (io), M10 VCCIO6 (power), M15 IO (265) (io), M16 IO (267) (io), M17 IO/CLK1n (273) (io), M18 CLK1p (277) (in), M20 IO (281) (io), N4 CLK4p (60) (in), N5 IO/CLK4n (59) (io), N7 IO/DEV_CLRn (54) (io), N15 IO (257) (io), N16 IO (259) (io), N17 IO (261) (io), N18 IO (264) (io), N19 IO (266) (io), P4 IO/CS (52) (io), P6 IO/CLKLK_FB2n (57) (io), P7 IO (137) (io), P8 VCCIO6 (power), P11 IO (157) (io), P13 VCCIO4 (power), P16 IO (251) (io), P17 IO (253) (io), P18 IO (255) (io), P19 IO (258) (io), R10 IO (163) (io), R11 IO (162) (io), R17 IO (242) (io), R18 IO (245) (io), R19 IO (247) (io), R20 IO (252) (io), R21 IO (254) (io), T6 IO (136) (io), T9 IO (149) (io), T10 IO (155) (io), T11 IO (164) (io), T15 VCCIO4 (power), T17 IO (236) (io), T18 IO (239) (io), T19 IO (241) (io), T20 IO (246) (io), T21 IO (248) (io), U7 IO (142) (io), U8 IO (145) (io), U9 IO (153) (io), U10 IO (156) (io), U11 IO (160) (io), U12 IO (159) (io), U19 IO (233) (io), U20 IO (240) (io), U21 IO (244) (io), V5 IO (134) (io), V6 IO (140) (io), V7 IO (141) (io), V8 IO (146) (io), V9 IO (152) (io), V10 IO (158) (io), V19 IO (230) (io), V20 IO (234) (io), V21 IO (238) (io), W6 IO (139) (io), W7 IO (138) (io), W8 IO (147) (io), W9 IO (151) (io), W19 IO (228) (io), W20 IO (232) (io), W21 IO (235) (io), Y5 IO (133) (io), Y6 IO (135) (io), Y7 IO (144) (io), Y8 IO (150) (io), Y9 IO (148) (io), Y10 IO (165) (io), Y19 IO (226) (io), Y20 IO (227) (io), Y21 IO (229) (io)
part C pins: D12 TRST (376) (in), E11 TDO (386) (out), E12 nCEO (377) (out), L4 DATA0 (63) (in), L5 DCLK (64) (in), L18 MSEL1 (278) (in), L19 MSEL0 (279) (in), M4 nCE (66) (in), M5 TDI (67) (in), M14 CLKLK_ENA (276) (in), M19 nCONFIG (275) (in), P5 CLKLK_OUT2p (79) (out), R6 CLKLK_FB2p (58) (in), W10 CONF_DONE (166) (io), W11 nSTATUS (167) (io), W12 TCK (178) (in), W13 TMS (179) (in)
part D pins: A1 GND (power), A11 GND (power), A22 GND (power), AA1 VCCINT (power), AA2 GND (power), AA21 GND (power), AA22 VCCINT (power), AB1 GND (power), AB11 GND (power), AB22 GND (power), B1 VCCINT (power), B2 GND (power), B21 GND (power), B22 VCCINT (power), F6 GND (power), F17 GND (power), G7 GND (power), G16 GND (power), H8 GND (power), H9 VCCINT (power), H15 GND (power), J8 VCCINT (power), J9 GND (power), J11 GND (power), J13 VCCINT (power), J14 GND (power), K10 GND (power), K11 VCCINT (power), K13 GND (power), K14 VCCINT (power), L2 GND (power), L9 VCC_CKLK2 (72) (power), L10 VCCINT (power), L11 GND (power), L12 GND (power), M1 GND (power), M8 VCC_CKLK4 (49) (power), M9 GND_CKLK2 (69/70) (power), M11 GND (power), M12 GND (power), M13 VCCINT (power), M21 GND (power), M22 VCCINT (power), N8 GND_CKLK4 (50/51) (power), N9 VCCINT (power), N10 GND (power), N12 VCCINT (power), N13 GND (power), P9 GND (power), P10 VCCINT (power), P14 GND (power), P15 VCCINT (power), R7 VCCINT (power), R8 GND (power), R14 VCCINT (power), R15 GND (power), T4 GND_CKOUT2 (75) (power), T5 VCC_CKOUT2 (74) (power), T7 GND (power), T16 GND (power), U6 GND (power), U17 GND (power)
part E pins: A2 NC, A3 NC, A4 NC, A5 NC, A6 NC, A7 NC, A8 NC, A9 NC, A10 NC, A12 NC, A13 NC, A14 NC, A15 NC, A16 NC, A17 NC, A18 NC, A19 NC, A20 NC, A21 NC, AB2 NC, AB3 NC, AB4 NC, AB5 NC, AB6 NC, AB7 NC, AB8 NC, AB9 NC, AB10 NC, AB12 NC, AB13 NC, AB14 NC, AB15 NC, AB16 NC, AB17 NC, AB18 NC, AB19 NC, AB20 NC, AB21 NC, C1 NC, C22 NC, D1 NC, D22 NC, E1 NC, E22 NC, F1 NC, F22 NC, G1 NC, G22 NC, H1 NC, H22 NC, J1 NC, J22 NC, K1 NC, K22 NC, N1 NC, N22 NC, P1 NC, P22 NC, R1 NC, R22 NC, T1 NC, T22 NC, U1 NC, U22 NC, V1 NC, V22 NC, W1 NC, W22 NC, Y1 NC, Y22 NC

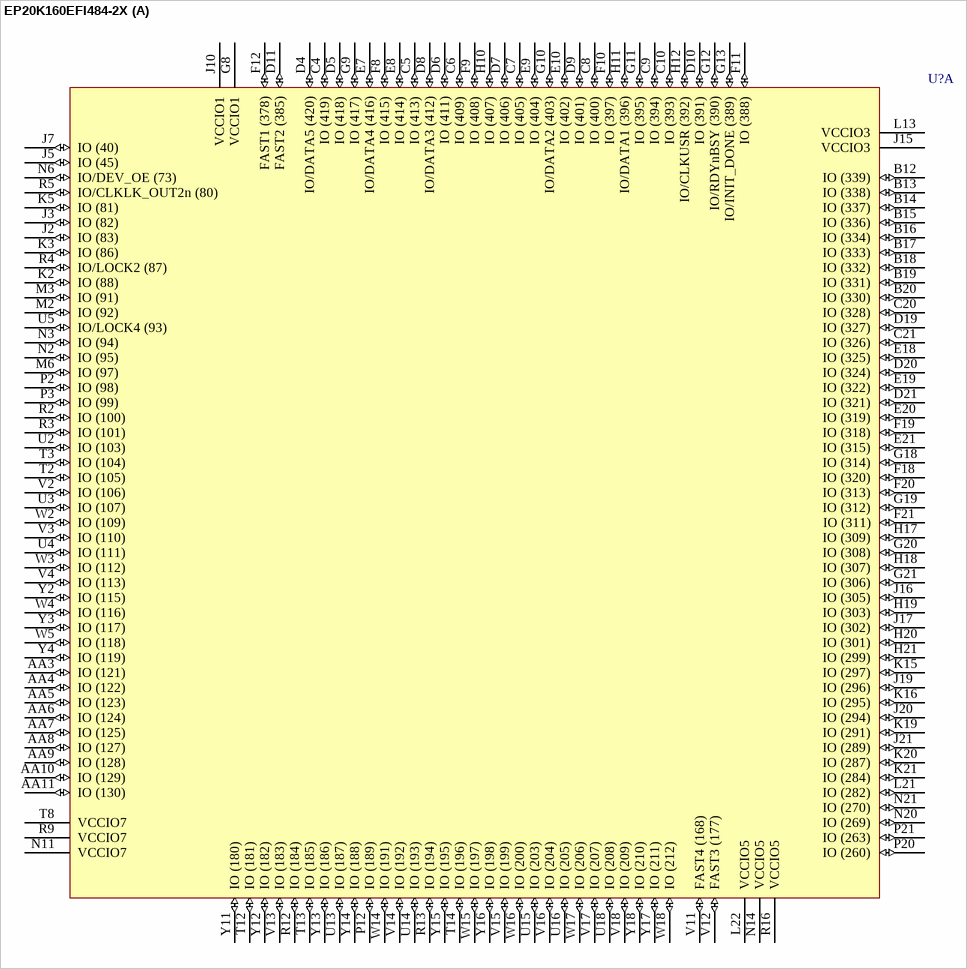
[diagram p144: symbol EP20K160EFI484-2X]

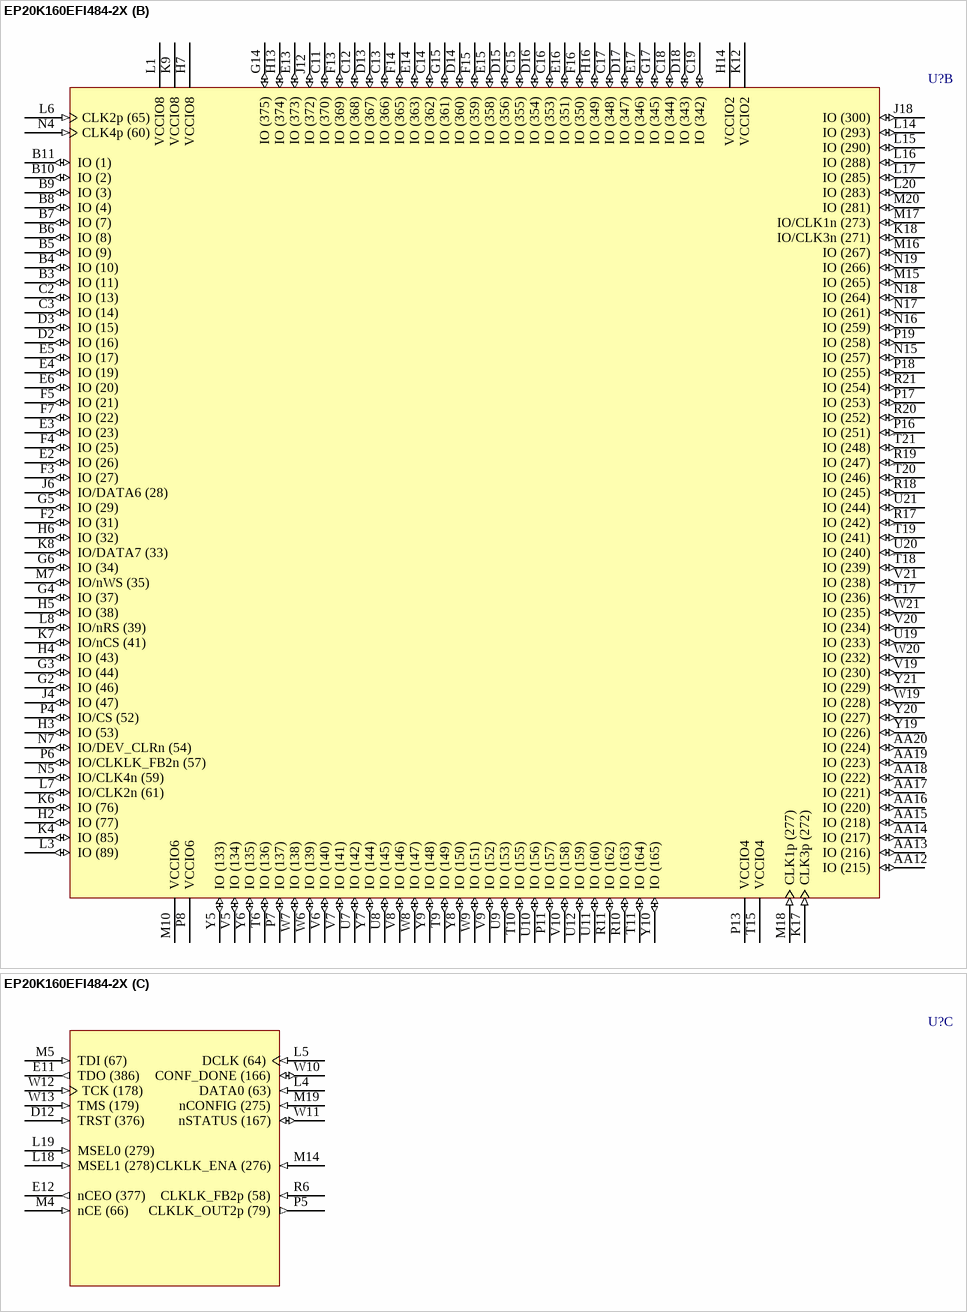
[diagram p145: symbol EP20K160EFI484-2X]

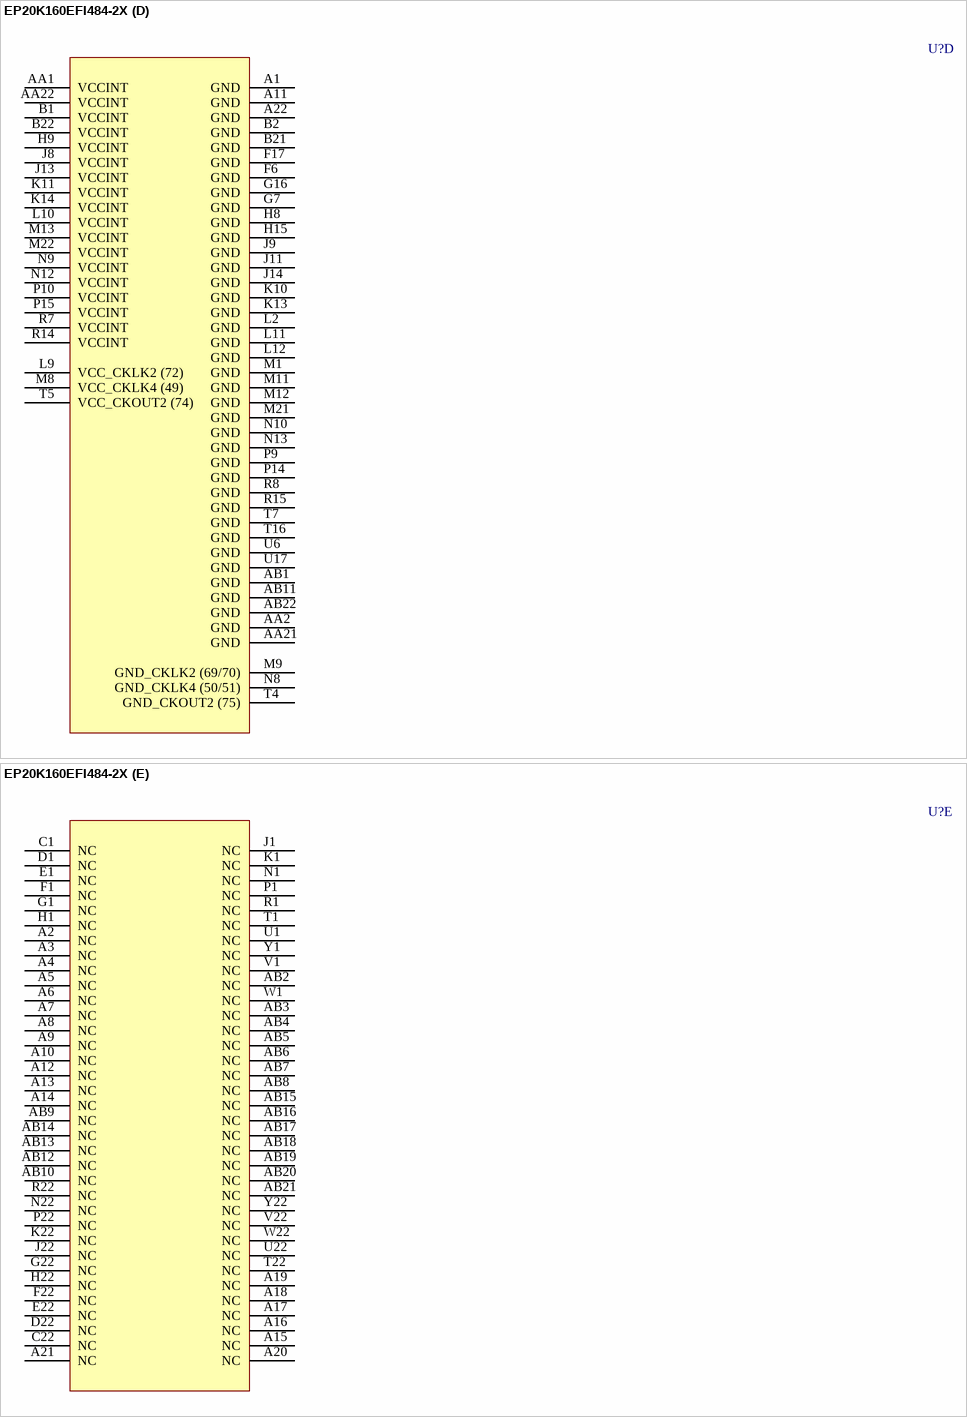
[diagram p146: symbol EP20K160EFI484-2X]

## EP20K160EFI484-2X
designator U?
APEX 20K160E PLD with PLLs and LVDS, 484-Pin FBGA, Industrial Grade, Speed Grade 2; Published: 17-Jul-2002; LatestRevisionDate: 13-Apr-2006; LatestRevisionNote: IPC-7351 Footprint Added.; DatasheetVersion: Mar-2004; PackageVersion: ver16.0, Dec-2009; PackageReference: FBGA484; Publisher: Altium Limited; PackageDescription: 484-Ball FineLine Ball Grid Array (FBGA484) - Flip Chip; Code_JEDEC: MS-034-AAJ-1; Code_IPC: BGA100P22X22-484; ComponentLink1Description: Manufacturer Link; ComponentLink1URL: http://www.altera.com/products/devices/apex/apx-index.html; ComponentLink2Description: Datasheet; ComponentLink2URL: http://www.altera.com/literature/ds/apex.pdf
footprint FBGA484 (BGA, 484-Leads, Body 23x23mm, Pitch 1mm)
3D model EP20K160E-FBGA484 (484-Ball FineLine Ball Grid Array (FBGA484) - Flip Chip)
part A pins: AA3 IO (121) (io), AA4 IO (122) (io), AA5 IO (123) (io), AA6 IO (124) (io), AA7 IO (125) (io), AA8 IO (127) (io), AA9 IO (128) (io), AA10 IO (129) (io), AA11 IO (130) (io), B12 IO (339) (io), B13 IO (338) (io), B14 IO (337) (io), B15 IO (336) (io), B16 IO (334) (io), B17 IO (333) (io), B18 IO (332) (io), B19 IO (331) (io), B20 IO (330) (io), C4 IO (419) (io), C5 IO (413) (io), C6 IO (409) (io), C7 IO (405) (io), C8 IO (400) (io), C9 IO (394) (io), C10 IO (393) (io), C20 IO (328) (io), C21 IO (326) (io), D4 IO/DATA5 (420) (io), D5 IO (418) (io), D6 IO (411) (io), D7 IO (406) (io), D8 IO/DATA3 (412) (io), D9 IO (401) (io), D10 IO (391) (io), D11 FAST2 (385) (io), D19 IO (327) (io), D20 IO (324) (io), D21 IO (321) (io), E7 IO/DATA4 (416) (io), E8 IO (414) (io), E9 IO (404) (io), E10 IO (402) (io), E18 IO (325) (io), E19 IO (322) (io), E20 IO (319) (io), E21 IO (315) (io), F8 IO (415) (io), F9 IO (408) (io), F10 IO (397) (io), F11 IO (388) (io), F12 FAST1 (378) (io), F18 IO (320) (io), F19 IO (318) (io), F20 IO (313) (io), F21 IO (311) (io), G8 VCCIO1 (power), G9 IO (417) (io), G10 IO/DATA2 (403) (io), G11 IO (395) (io), G12 IO/RDYnBSY (390) (io), G13 IO/INIT_DONE (389) (io), G18 IO (314) (io), G19 IO (312) (io), G20 IO (308) (io), G21 IO (306) (io), H10 IO (407) (io), H11 IO/DATA1 (396) (io), H12 IO/CLKUSR (392) (io), H17 IO (309) (io), H18 IO (307) (io), H19 IO (303) (io), H20 IO (301) (io), H21 IO (299) (io), J2 IO (83) (io), J3 IO (82) (io), J5 IO (45) (io), J7 IO (40) (io), J10 VCCIO1 (power), J15 VCCIO3 (power), J16 IO (305) (io), J17 IO (302) (io), J19 IO (296) (io), J20 IO (294) (io), J21 IO (289) (io), K2 IO (88) (io), K3 IO (86) (io), K5 IO (81) (io), K15 IO (297) (io), K16 IO (295) (io), K19 IO (291) (io), K20 IO (287) (io), K21 IO (284) (io), L13 VCCIO3 (power), L21 IO (282) (io), L22 VCCIO5 (power), M2 IO (92) (io), M3 IO (91) (io), M6 IO (97) (io), N2 IO (95) (io), N3 IO (94) (io), N6 IO/DEV_OE (73) (io), N11 VCCIO7 (power), N14 VCCIO5 (power), N20 IO (269) (io), N21 IO (270) (io), P2 IO (98) (io), P3 IO (99) (io), P12 IO (189) (io), P20 IO (260) (io), P21 IO (263) (io), R2 IO (100) (io), R3 IO (101) (io), R4 IO/LOCK2 (87) (io), R5 IO/CLKLK_OUT2n (80) (io), R9 VCCIO7 (power), R12 IO (184) (io), R13 IO (194) (io), R16 VCCIO5 (power), T2 IO (105) (io), T3 IO (104) (io), T8 VCCIO7 (power), T12 IO (181) (io), T13 IO (185) (io), T14 IO (196) (io), U2 IO (103) (io), U3 IO (107) (io), U4 IO (111) (io), U5 IO/LOCK4 (93) (io), U13 IO (187) (io), U14 IO (193) (io), U15 IO (203) (io), U16 IO (205) (io), U18 IO (208) (io), V2 IO (106) (io), V3 IO (110) (io), V4 IO (113) (io), V11 FAST4 (168) (io), V12 FAST3 (177) (io), V13 IO (183) (io), V14 IO (192) (io), V15 IO (199) (io), V16 IO (204) (io), V17 IO (207) (io), V18 IO (209) (io), W2 IO (109) (io), W3 IO (112) (io), W4 IO (116) (io), W5 IO (118) (io), W14 IO (191) (io), W15 IO (197) (io), W16 IO (200) (io), W17 IO (206) (io), W18 IO (212) (io), Y2 IO (115) (io), Y3 IO (117) (io), Y4 IO (119) (io), Y11 IO (180) (io), Y12 IO (182) (io), Y13 IO (186) (io), Y14 IO (188) (io), Y15 IO (195) (io), Y16 IO (198) (io), Y17 IO (211) (io), Y18 IO (210) (io)
part B pins: AA12 IO (215) (io), AA13 IO (216) (io), AA14 IO (217) (io), AA15 IO (218) (io), AA16 IO (220) (io), AA17 IO (221) (io), AA18 IO (222) (io), AA19 IO (223) (io), AA20 IO (224) (io), B3 IO (11) (io), B4 IO (10) (io), B5 IO (9) (io), B6 IO (8) (io), B7 IO (7) (io), B8 IO (4) (io), B9 IO (3) (io), B10 IO (2) (io), B11 IO (1) (io), C2 IO (13) (io), C3 IO (14) (io), C11 IO (370) (io), C12 IO (368) (io), C13 IO (366) (io), C14 IO (362) (io), C15 IO (355) (io), C16 IO (353) (io), C17 IO (348) (io), C18 IO (344) (io), C19 IO (342) (io), D2 IO (16) (io), D3 IO (15) (io), D13 IO (367) (io), D14 IO (360) (io), D15 IO (356) (io), D16 IO (354) (io), D17 IO (347) (io), D18 IO (343) (io), E2 IO (26) (io), E3 IO (23) (io), E4 IO (19) (io), E5 IO (17) (io), E6 IO (20) (io), E13 IO (373) (io), E14 IO (363) (io), E15 IO (358) (io), E16 IO (351) (io), E17 IO (346) (io), F2 IO (31) (io), F3 IO (27) (io), F4 IO (25) (io), F5 IO (21) (io), F7 IO (22) (io), F13 IO (369) (io), F14 IO (365) (io), F15 IO (359) (io), F16 IO (350) (io), G2 IO (46) (io), G3 IO (44) (io), G4 IO (37) (io), G5 IO (29) (io), G6 IO (34) (io), G14 IO (375) (io), G15 IO (361) (io), G17 IO (345) (io), H2 IO (77) (io), H3 IO (53) (io), H4 IO (43) (io), H5 IO (38) (io), H6 IO (32) (io), H7 VCCIO8 (power), H13 IO (374) (io), H14 VCCIO2 (power), H16 IO (349) (io), J4 IO (47) (io), J6 IO/DATA6 (28) (io), J12 IO (372) (io), J18 IO (300) (io), K4 IO (85) (io), K6 IO (76) (io), K7 IO/nCS (41) (io), K8 IO/DATA7 (33) (io), K9 VCCIO8 (power), K12 VCCIO2 (power), K17 CLK3p (272) (in), K18 IO/CLK3n (271) (io), L1 VCCIO8 (power), L3 IO (89) (io), L6 CLK2p (65) (in), L7 IO/CLK2n (61) (io), L8 IO/nRS (39) (io), L14 IO (293) (io), L15 IO (290) (io), L16 IO (288) (io), L17 IO (285) (io), L20 IO (283) (io), M7 IO/nWS (35) (io), M10 VCCIO6 (power), M15 IO (265) (io), M16 IO (267) (io), M17 IO/CLK1n (273) (io), M18 CLK1p (277) (in), M20 IO (281) (io), N4 CLK4p (60) (in), N5 IO/CLK4n (59) (io), N7 IO/DEV_CLRn (54) (io), N15 IO (257) (io), N16 IO (259) (io), N17 IO (261) (io), N18 IO (264) (io), N19 IO (266) (io), P4 IO/CS (52) (io), P6 IO/CLKLK_FB2n (57) (io), P7 IO (137) (io), P8 VCCIO6 (power), P11 IO (157) (io), P13 VCCIO4 (power), P16 IO (251) (io), P17 IO (253) (io), P18 IO (255) (io), P19 IO (258) (io), R10 IO (163) (io), R11 IO (162) (io), R17 IO (242) (io), R18 IO (245) (io), R19 IO (247) (io), R20 IO (252) (io), R21 IO (254) (io), T6 IO (136) (io), T9 IO (149) (io), T10 IO (155) (io), T11 IO (164) (io), T15 VCCIO4 (power), T17 IO (236) (io), T18 IO (239) (io), T19 IO (241) (io), T20 IO (246) (io), T21 IO (248) (io), U7 IO (142) (io), U8 IO (145) (io), U9 IO (153) (io), U10 IO (156) (io), U11 IO (160) (io), U12 IO (159) (io), U19 IO (233) (io), U20 IO (240) (io), U21 IO (244) (io), V5 IO (134) (io), V6 IO (140) (io), V7 IO (141) (io), V8 IO (146) (io), V9 IO (152) (io), V10 IO (158) (io), V19 IO (230) (io), V20 IO (234) (io), V21 IO (238) (io), W6 IO (139) (io), W7 IO (138) (io), W8 IO (147) (io), W9 IO (151) (io), W19 IO (228) (io), W20 IO (232) (io), W21 IO (235) (io), Y5 IO (133) (io), Y6 IO (135) (io), Y7 IO (144) (io), Y8 IO (150) (io), Y9 IO (148) (io), Y10 IO (165) (io), Y19 IO (226) (io), Y20 IO (227) (io), Y21 IO (229) (io)
part C pins: D12 TRST (376) (in), E11 TDO (386) (out), E12 nCEO (377) (out), L4 DATA0 (63) (in), L5 DCLK (64) (in), L18 MSEL1 (278) (in), L19 MSEL0 (279) (in), M4 nCE (66) (in), M5 TDI (67) (in), M14 CLKLK_ENA (276) (in), M19 nCONFIG (275) (in), P5 CLKLK_OUT2p (79) (out), R6 CLKLK_FB2p (58) (in), W10 CONF_DONE (166) (io), W11 nSTATUS (167) (io), W12 TCK (178) (in), W13 TMS (179) (in)
part D pins: A1 GND (power), A11 GND (power), A22 GND (power), AA1 VCCINT (power), AA2 GND (power), AA21 GND (power), AA22 VCCINT (power), AB1 GND (power), AB11 GND (power), AB22 GND (power), B1 VCCINT (power), B2 GND (power), B21 GND (power), B22 VCCINT (power), F6 GND (power), F17 GND (power), G7 GND (power), G16 GND (power), H8 GND (power), H9 VCCINT (power), H15 GND (power), J8 VCCINT (power), J9 GND (power), J11 GND (power), J13 VCCINT (power), J14 GND (power), K10 GND (power), K11 VCCINT (power), K13 GND (power), K14 VCCINT (power), L2 GND (power), L9 VCC_CKLK2 (72) (power), L10 VCCINT (power), L11 GND (power), L12 GND (power), M1 GND (power), M8 VCC_CKLK4 (49) (power), M9 GND_CKLK2 (69/70) (power), M11 GND (power), M12 GND (power), M13 VCCINT (power), M21 GND (power), M22 VCCINT (power), N8 GND_CKLK4 (50/51) (power), N9 VCCINT (power), N10 GND (power), N12 VCCINT (power), N13 GND (power), P9 GND (power), P10 VCCINT (power), P14 GND (power), P15 VCCINT (power), R7 VCCINT (power), R8 GND (power), R14 VCCINT (power), R15 GND (power), T4 GND_CKOUT2 (75) (power), T5 VCC_CKOUT2 (74) (power), T7 GND (power), T16 GND (power), U6 GND (power), U17 GND (power)
part E pins: A2 NC, A3 NC, A4 NC, A5 NC, A6 NC, A7 NC, A8 NC, A9 NC, A10 NC, A12 NC, A13 NC, A14 NC, A15 NC, A16 NC, A17 NC, A18 NC, A19 NC, A20 NC, A21 NC, AB2 NC, AB3 NC, AB4 NC, AB5 NC, AB6 NC, AB7 NC, AB8 NC, AB9 NC, AB10 NC, AB12 NC, AB13 NC, AB14 NC, AB15 NC, AB16 NC, AB17 NC, AB18 NC, AB19 NC, AB20 NC, AB21 NC, C1 NC, C22 NC, D1 NC, D22 NC, E1 NC, E22 NC, F1 NC, F22 NC, G1 NC, G22 NC, H1 NC, H22 NC, J1 NC, J22 NC, K1 NC, K22 NC, N1 NC, N22 NC, P1 NC, P22 NC, R1 NC, R22 NC, T1 NC, T22 NC, U1 NC, U22 NC, V1 NC, V22 NC, W1 NC, W22 NC, Y1 NC, Y22 NC

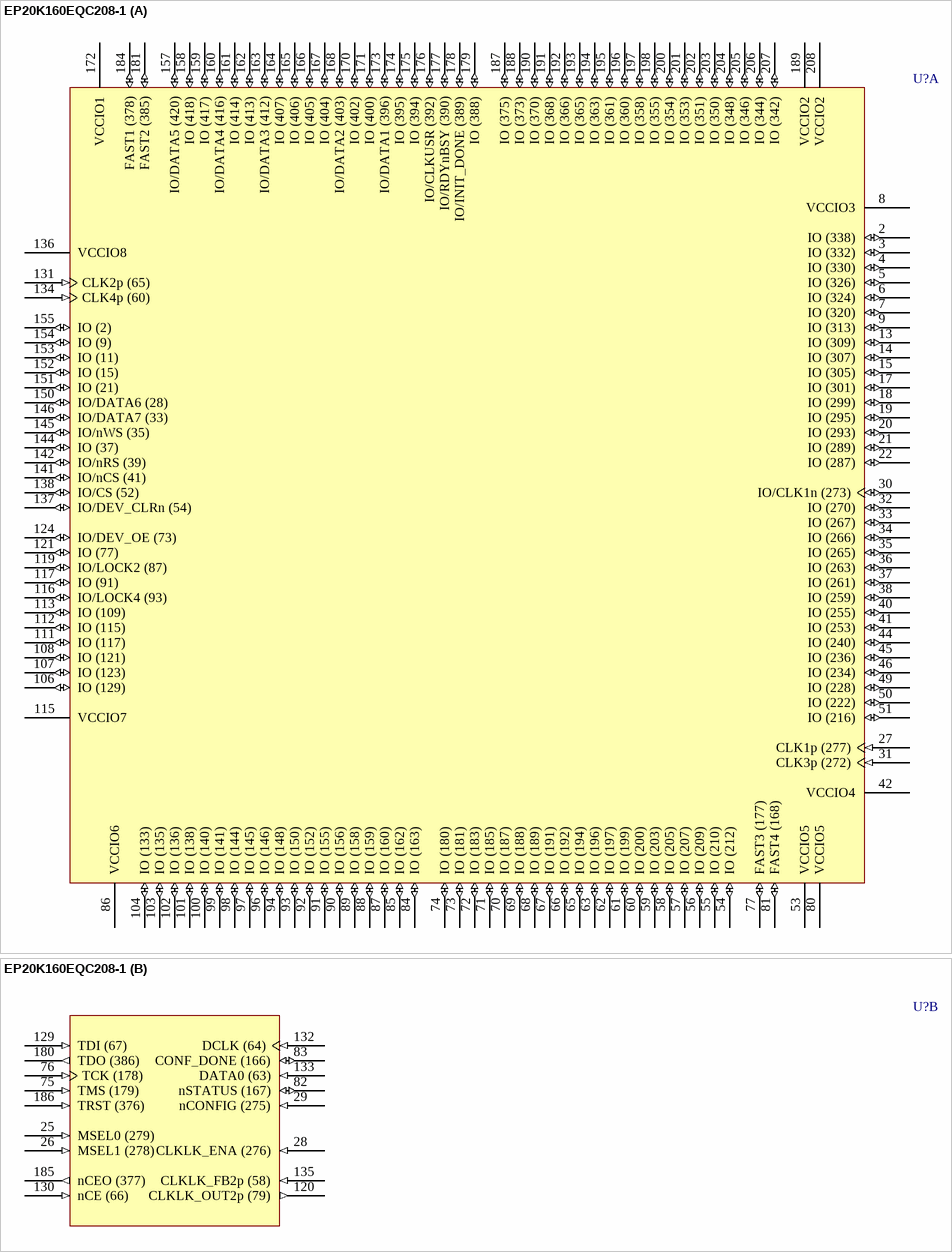
[diagram p147: symbol EP20K160EQC208-1]

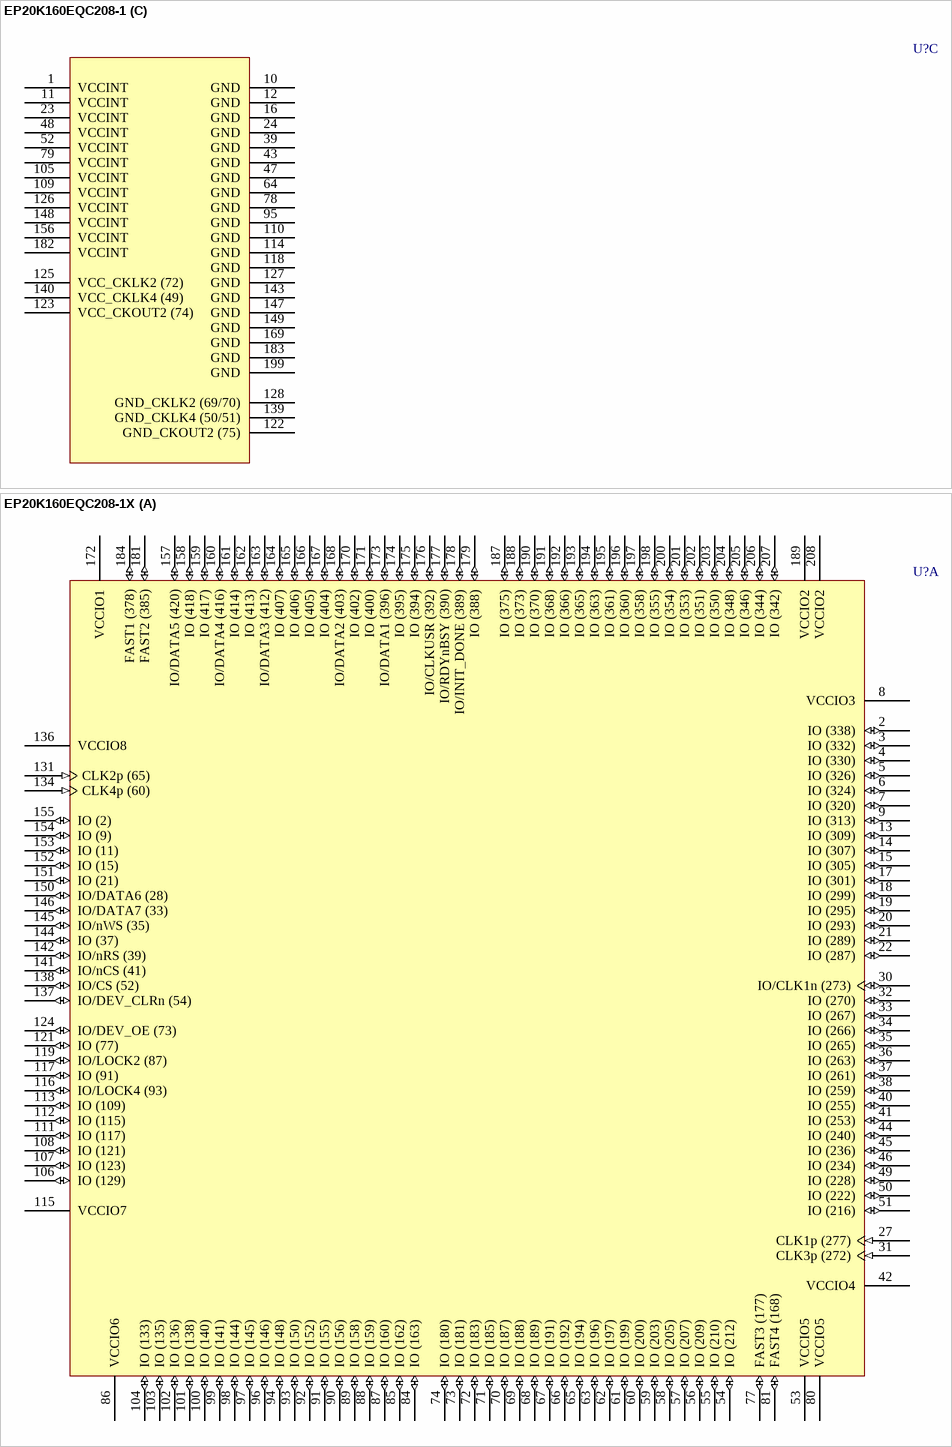
[diagram p148: symbols EP20K160EQC208-1 to EP20K160EQC208-1X]

## EP20K160EQC208-1
designator U?
APEX 20K160E PLD, 208-Pin PQFP, Commercial Grade, Speed Grade 1; Published: 17-Jul-2002; LatestRevisionDate: 13-Apr-2006; LatestRevisionNote: IPC-7351 Footprint Added.; DatasheetVersion: Mar-2004; PackageVersion: ver15.4, Dec-2008; PackageReference: PQFP208; Publisher: Altium Limited; PackageDescription: 208-Pin Plastic Quad Flat Pack (PQFP208) - Wire Bond; Code_JEDEC: MS-029-FA-1; ComponentLink1Description: Manufacturer Link; ComponentLink1URL: http://www.altera.com/products/devices/apex/apx-index.html; ComponentLink2Description: Datasheet; ComponentLink2URL: http://www.altera.com/literature/ds/apex.pdf
footprint PQFP208_N (Shrink QFP, 208-Leads, Body 28x28mm, Pitch 0.5mm, IPC Medium Density)
footprint PQFP208_L (Shrink QFP, 208-Leads, Body 28x28mm, Pitch 0.5mm, IPC High Density)
footprint PQFP208_M (Shrink QFP, 208-Leads, Body 28x28mm, Pitch 0.5mm, IPC Low Density)
3D model EP20K160E-PQFP208 (208-Pin Plastic Quad Flat Pack (PQFP208) - Wire Bond)
part A pins: 2 IO (338) (io), 3 IO (332) (io), 4 IO (330) (io), 5 IO (326) (io), 6 IO (324) (io), 7 IO (320) (io), 8 VCCIO3 (power), 9 IO (313) (io), 13 IO (309) (io), 14 IO (307) (io), 15 IO (305) (io), 17 IO (301) (io), 18 IO (299) (io), 19 IO (295) (io), 20 IO (293) (io), 21 IO (289) (io), 22 IO (287) (io), 27 CLK1p (277) (in), 30 IO/CLK1n (273) (io), 31 CLK3p (272) (in), 32 IO (270) (io), 33 IO (267) (io), 34 IO (266) (io), 35 IO (265) (io), 36 IO (263) (io), 37 IO (261) (io), 38 IO (259) (io), 40 IO (255) (io), 41 IO (253) (io), 42 VCCIO4 (power), 44 IO (240) (io), 45 IO (236) (io), 46 IO (234) (io), 49 IO (228) (io), 50 IO (222) (io), 51 IO (216) (io), 53 VCCIO5 (power), 54 IO (212) (io), 55 IO (210) (io), 56 IO (209) (io), 57 IO (207) (io), 58 IO (205) (io), 59 IO (203) (io), 60 IO (200) (io), 61 IO (199) (io), 62 IO (197) (io), 63 IO (196) (io), 65 IO (194) (io), 66 IO (192) (io), 67 IO (191) (io), 68 IO (189) (io), 69 IO (188) (io), 70 IO (187) (io), 71 IO (185) (io), 72 IO (183) (io), 73 IO (181) (io), 74 IO (180) (io), 77 FAST3 (177) (io), 80 VCCIO5 (power), 81 FAST4 (168) (io), 84 IO (163) (io), 85 IO (162) (io), 86 VCCIO6 (power), 87 IO (160) (io), 88 IO (159) (io), 89 IO (158) (io), 90 IO (156) (io), 91 IO (155) (io), 92 IO (152) (io), 93 IO (150) (io), 94 IO (148) (io), 96 IO (146) (io), 97 IO (145) (io), 98 IO (144) (io), 99 IO (141) (io), 100 IO (140) (io), 101 IO (138) (io), 102 IO (136) (io), 103 IO (135) (io), 104 IO (133) (io), 106 IO (129) (io), 107 IO (123) (io), 108 IO (121) (io), 111 IO (117) (io), 112 IO (115) (io), 113 IO (109) (io), 115 VCCIO7 (power), 116 IO/LOCK4 (93) (io), 117 IO (91) (io), 119 IO/LOCK2 (87) (io), 121 IO (77) (io), 124 IO/DEV_OE (73) (io), 131 CLK2p (65) (in), 134 CLK4p (60) (in), 136 VCCIO8 (power), 137 IO/DEV_CLRn (54) (io), 138 IO/CS (52) (io), 141 IO/nCS (41) (io), 142 IO/nRS (39) (io), 144 IO (37) (io), 145 IO/nWS (35) (io), 146 IO/DATA7 (33) (io), 150 IO/DATA6 (28) (io), 151 IO (21) (io), 152 IO (15) (io), 153 IO (11) (io), 154 IO (9) (io), 155 IO (2) (io), 157 IO/DATA5 (420) (io), 158 IO (418) (io), 159 IO (417) (io), 160 IO/DATA4 (416) (io), 161 IO (414) (io), 162 IO (413) (io), 163 IO/DATA3 (412) (io), 164 IO (407) (io), 165 IO (406) (io), 166 IO (405) (io), 167 IO (404) (io), 168 IO/DATA2 (403) (io), 170 IO (402) (io), 171 IO (400) (io), 172 VCCIO1 (power), 173 IO/DATA1 (396) (io), 174 IO (395) (io), 175 IO (394) (io), 176 IO/CLKUSR (392) (io), 177 IO/RDYnBSY (390) (io), 178 IO/INIT_DONE (389) (io), 179 IO (388) (io), 181 FAST2 (385) (io), 184 FAST1 (378) (io), 187 IO (375) (io), 188 IO (373) (io), 189 VCCIO2 (power), 190 IO (370) (io), 191 IO (368) (io), 192 IO (366) (io), 193 IO (365) (io), 194 IO (363) (io), 195 IO (361) (io), 196 IO (360) (io), 197 IO (358) (io), 198 IO (355) (io), 200 IO (354) (io), 201 IO (353) (io), 202 IO (351) (io), 203 IO (350) (io), 204 IO (348) (io), 205 IO (346) (io), 206 IO (344) (io), 207 IO (342) (io), 208 VCCIO2 (power)
part B pins: 25 MSEL0 (279) (in), 26 MSEL1 (278) (in), 28 CLKLK_ENA (276) (in), 29 nCONFIG (275) (in), 75 TMS (179) (in), 76 TCK (178) (in), 82 nSTATUS (167) (io), 83 CONF_DONE (166) (io), 120 CLKLK_OUT2p (79) (out), 129 TDI (67) (in), 130 nCE (66) (in), 132 DCLK (64) (in), 133 DATA0 (63) (in), 135 CLKLK_FB2p (58) (in), 180 TDO (386) (out), 185 nCEO (377) (out), 186 TRST (376) (in)
part C pins: 1 VCCINT (power), 10 GND (power), 11 VCCINT (power), 12 GND (power), 16 GND (power), 23 VCCINT (power), 24 GND (power), 39 GND (power), 43 GND (power), 47 GND (power), 48 VCCINT (power), 52 VCCINT (power), 64 GND (power), 78 GND (power), 79 VCCINT (power), 95 GND (power), 105 VCCINT (power), 109 VCCINT (power), 110 GND (power), 114 GND (power), 118 GND (power), 122 GND_CKOUT2 (75) (power), 123 VCC_CKOUT2 (74) (power), 125 VCC_CKLK2 (72) (power), 126 VCCINT (power), 127 GND (power), 128 GND_CKLK2 (69/70) (power), 139 GND_CKLK4 (50/51) (power), 140 VCC_CKLK4 (49) (power), 143 GND (power), 147 GND (power), 148 VCCINT (power), 149 GND (power), 156 VCCINT (power), 169 GND (power), 182 VCCINT (power), 183 GND (power), 199 GND (power)

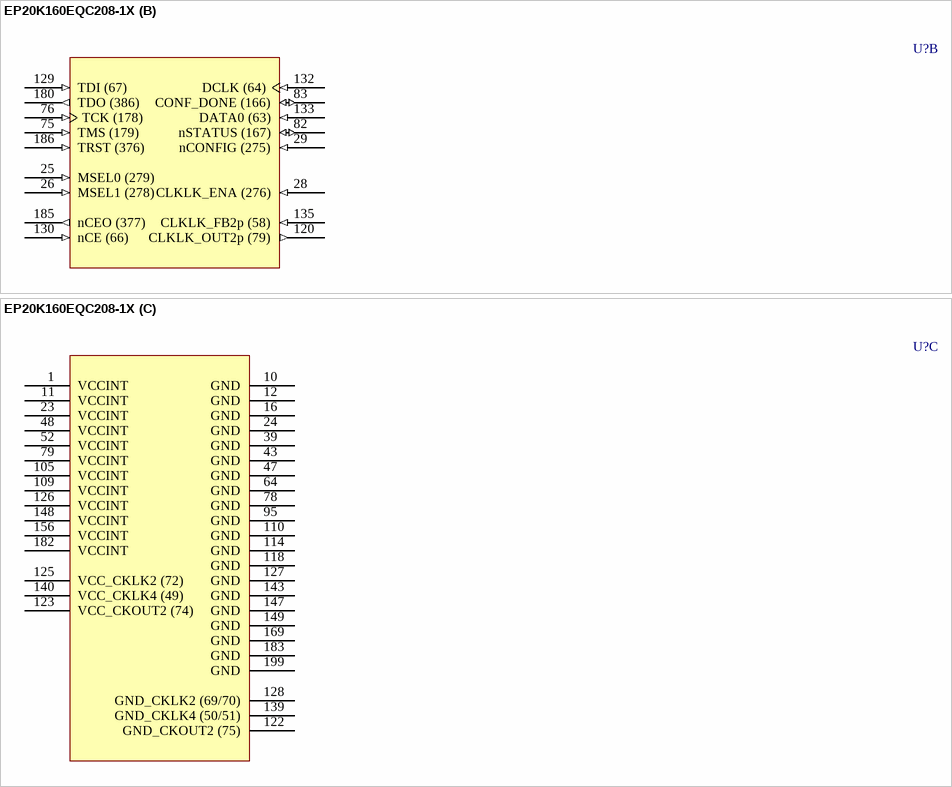
[diagram p149: symbol EP20K160EQC208-1X]

## EP20K160EQC208-1X
designator U?
APEX 20K160E PLD with PLLs and LVDS, 208-Pin PQFP, Commercial Grade, Speed Grade 1; Published: 17-Jul-2002; LatestRevisionDate: 13-Apr-2006; LatestRevisionNote: IPC-7351 Footprint Added.; DatasheetVersion: Mar-2004; PackageVersion: ver15.4, Dec-2008; PackageReference: PQFP208; Publisher: Altium Limited; PackageDescription: 208-Pin Plastic Quad Flat Pack (PQFP208) - Wire Bond; Code_JEDEC: MS-029-FA-1; ComponentLink1Description: Manufacturer Link; ComponentLink1URL: http://www.altera.com/products/devices/apex/apx-index.html; ComponentLink2Description: Datasheet; ComponentLink2URL: http://www.altera.com/literature/ds/apex.pdf
footprint PQFP208_N (Shrink QFP, 208-Leads, Body 28x28mm, Pitch 0.5mm, IPC Medium Density)
footprint PQFP208_L (Shrink QFP, 208-Leads, Body 28x28mm, Pitch 0.5mm, IPC High Density)
footprint PQFP208_M (Shrink QFP, 208-Leads, Body 28x28mm, Pitch 0.5mm, IPC Low Density)
3D model EP20K160E-PQFP208 (208-Pin Plastic Quad Flat Pack (PQFP208) - Wire Bond)
part A pins: 2 IO (338) (io), 3 IO (332) (io), 4 IO (330) (io), 5 IO (326) (io), 6 IO (324) (io), 7 IO (320) (io), 8 VCCIO3 (power), 9 IO (313) (io), 13 IO (309) (io), 14 IO (307) (io), 15 IO (305) (io), 17 IO (301) (io), 18 IO (299) (io), 19 IO (295) (io), 20 IO (293) (io), 21 IO (289) (io), 22 IO (287) (io), 27 CLK1p (277) (in), 30 IO/CLK1n (273) (io), 31 CLK3p (272) (in), 32 IO (270) (io), 33 IO (267) (io), 34 IO (266) (io), 35 IO (265) (io), 36 IO (263) (io), 37 IO (261) (io), 38 IO (259) (io), 40 IO (255) (io), 41 IO (253) (io), 42 VCCIO4 (power), 44 IO (240) (io), 45 IO (236) (io), 46 IO (234) (io), 49 IO (228) (io), 50 IO (222) (io), 51 IO (216) (io), 53 VCCIO5 (power), 54 IO (212) (io), 55 IO (210) (io), 56 IO (209) (io), 57 IO (207) (io), 58 IO (205) (io), 59 IO (203) (io), 60 IO (200) (io), 61 IO (199) (io), 62 IO (197) (io), 63 IO (196) (io), 65 IO (194) (io), 66 IO (192) (io), 67 IO (191) (io), 68 IO (189) (io), 69 IO (188) (io), 70 IO (187) (io), 71 IO (185) (io), 72 IO (183) (io), 73 IO (181) (io), 74 IO (180) (io), 77 FAST3 (177) (io), 80 VCCIO5 (power), 81 FAST4 (168) (io), 84 IO (163) (io), 85 IO (162) (io), 86 VCCIO6 (power), 87 IO (160) (io), 88 IO (159) (io), 89 IO (158) (io), 90 IO (156) (io), 91 IO (155) (io), 92 IO (152) (io), 93 IO (150) (io), 94 IO (148) (io), 96 IO (146) (io), 97 IO (145) (io), 98 IO (144) (io), 99 IO (141) (io), 100 IO (140) (io), 101 IO (138) (io), 102 IO (136) (io), 103 IO (135) (io), 104 IO (133) (io), 106 IO (129) (io), 107 IO (123) (io), 108 IO (121) (io), 111 IO (117) (io), 112 IO (115) (io), 113 IO (109) (io), 115 VCCIO7 (power), 116 IO/LOCK4 (93) (io), 117 IO (91) (io), 119 IO/LOCK2 (87) (io), 121 IO (77) (io), 124 IO/DEV_OE (73) (io), 131 CLK2p (65) (in), 134 CLK4p (60) (in), 136 VCCIO8 (power), 137 IO/DEV_CLRn (54) (io), 138 IO/CS (52) (io), 141 IO/nCS (41) (io), 142 IO/nRS (39) (io), 144 IO (37) (io), 145 IO/nWS (35) (io), 146 IO/DATA7 (33) (io), 150 IO/DATA6 (28) (io), 151 IO (21) (io), 152 IO (15) (io), 153 IO (11) (io), 154 IO (9) (io), 155 IO (2) (io), 157 IO/DATA5 (420) (io), 158 IO (418) (io), 159 IO (417) (io), 160 IO/DATA4 (416) (io), 161 IO (414) (io), 162 IO (413) (io), 163 IO/DATA3 (412) (io), 164 IO (407) (io), 165 IO (406) (io), 166 IO (405) (io), 167 IO (404) (io), 168 IO/DATA2 (403) (io), 170 IO (402) (io), 171 IO (400) (io), 172 VCCIO1 (power), 173 IO/DATA1 (396) (io), 174 IO (395) (io), 175 IO (394) (io), 176 IO/CLKUSR (392) (io), 177 IO/RDYnBSY (390) (io), 178 IO/INIT_DONE (389) (io), 179 IO (388) (io), 181 FAST2 (385) (io), 184 FAST1 (378) (io), 187 IO (375) (io), 188 IO (373) (io), 189 VCCIO2 (power), 190 IO (370) (io), 191 IO (368) (io), 192 IO (366) (io), 193 IO (365) (io), 194 IO (363) (io), 195 IO (361) (io), 196 IO (360) (io), 197 IO (358) (io), 198 IO (355) (io), 200 IO (354) (io), 201 IO (353) (io), 202 IO (351) (io), 203 IO (350) (io), 204 IO (348) (io), 205 IO (346) (io), 206 IO (344) (io), 207 IO (342) (io), 208 VCCIO2 (power)
part B pins: 25 MSEL0 (279) (in), 26 MSEL1 (278) (in), 28 CLKLK_ENA (276) (in), 29 nCONFIG (275) (in), 75 TMS (179) (in), 76 TCK (178) (in), 82 nSTATUS (167) (io), 83 CONF_DONE (166) (io), 120 CLKLK_OUT2p (79) (out), 129 TDI (67) (in), 130 nCE (66) (in), 132 DCLK (64) (in), 133 DATA0 (63) (in), 135 CLKLK_FB2p (58) (in), 180 TDO (386) (out), 185 nCEO (377) (out), 186 TRST (376) (in)
part C pins: 1 VCCINT (power), 10 GND (power), 11 VCCINT (power), 12 GND (power), 16 GND (power), 23 VCCINT (power), 24 GND (power), 39 GND (power), 43 GND (power), 47 GND (power), 48 VCCINT (power), 52 VCCINT (power), 64 GND (power), 78 GND (power), 79 VCCINT (power), 95 GND (power), 105 VCCINT (power), 109 VCCINT (power), 110 GND (power), 114 GND (power), 118 GND (power), 122 GND_CKOUT2 (75) (power), 123 VCC_CKOUT2 (74) (power), 125 VCC_CKLK2 (72) (power), 126 VCCINT (power), 127 GND (power), 128 GND_CKLK2 (69/70) (power), 139 GND_CKLK4 (50/51) (power), 140 VCC_CKLK4 (49) (power), 143 GND (power), 147 GND (power), 148 VCCINT (power), 149 GND (power), 156 VCCINT (power), 169 GND (power), 182 VCCINT (power), 183 GND (power), 199 GND (power)

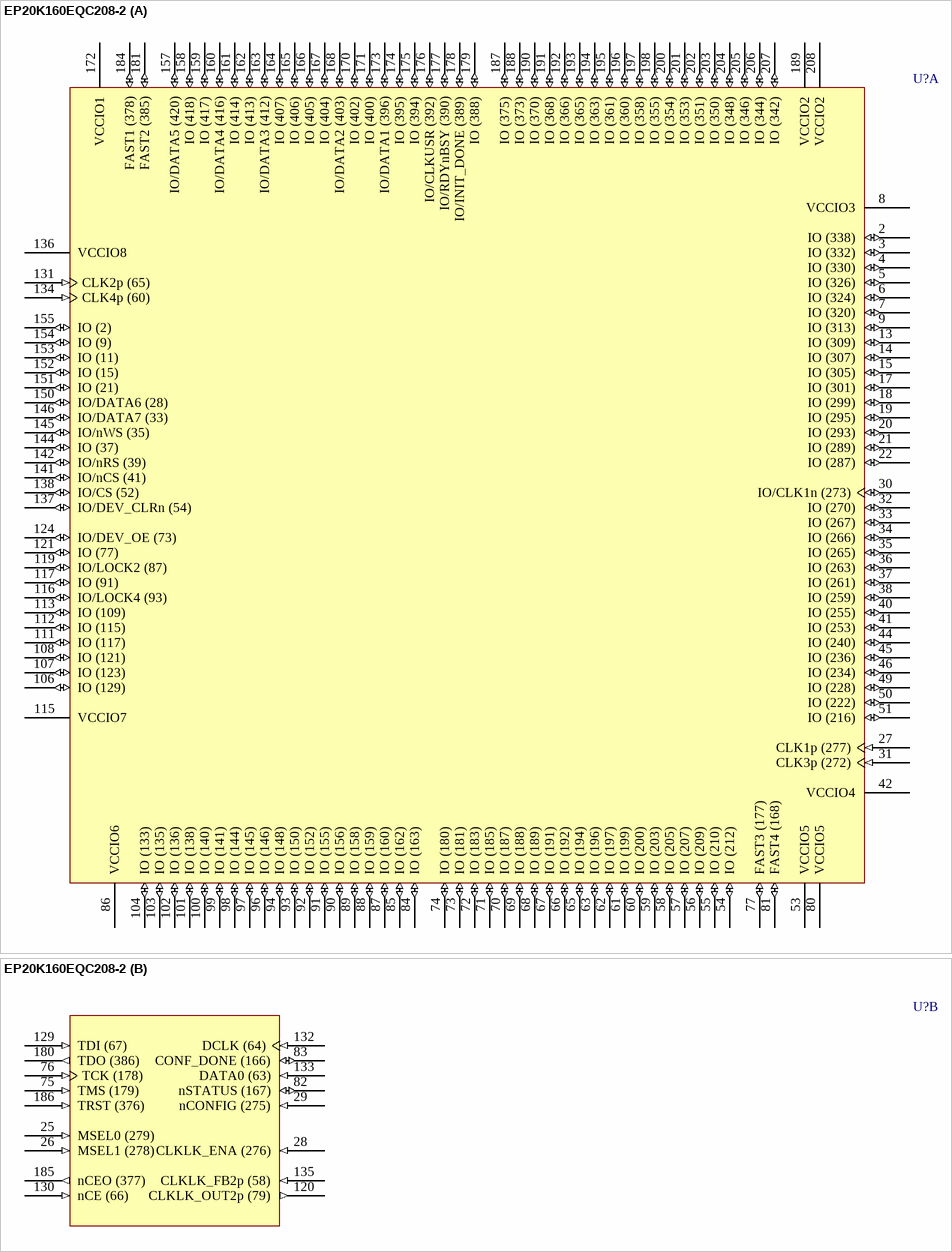
[diagram p150: symbol EP20K160EQC208-2]

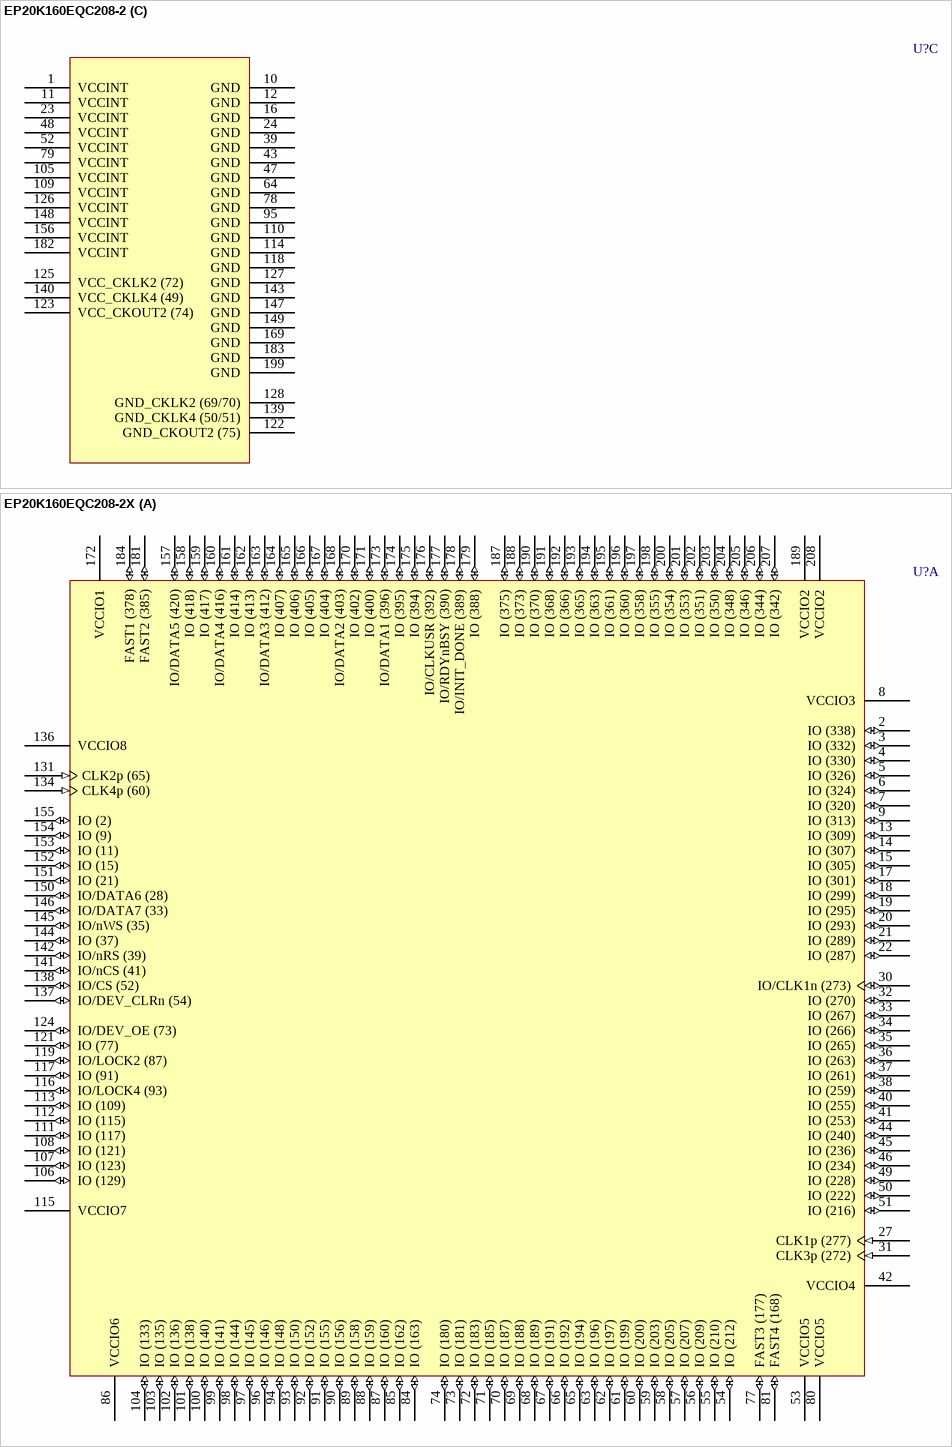
[diagram p151: symbols EP20K160EQC208-2 to EP20K160EQC208-2X]